# Altium schematic symbol library IMX53.SCHLIB: 60 symbols
Pins are listed as number, name and electrical type; pins without a type are passive.

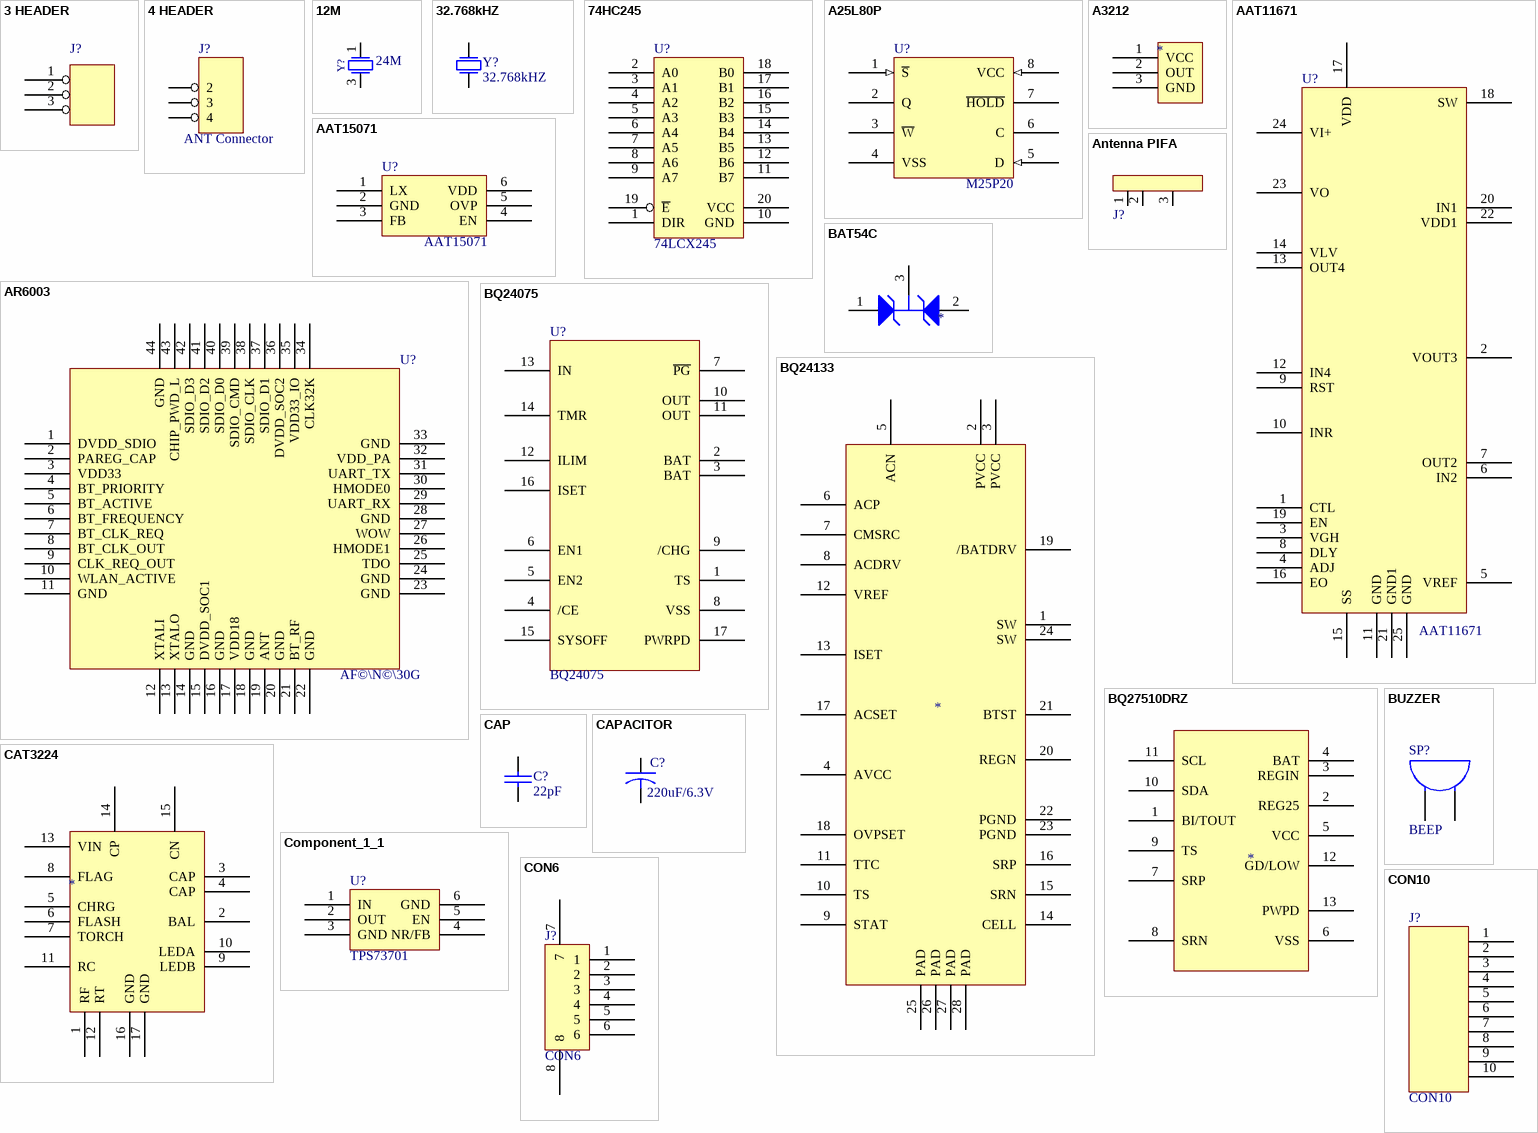
[diagram p0: symbols 3 HEADER to CON10]

## 3 HEADER
designator J?
footprint J-CON-3-2_1 (MONO_TEST)
pins: 1, 2, 3

## 4 HEADER
designator J?, comment ANT Connector
4 Pin Header
footprint J-AT-3-50-H (ATNC)
pins: 2, 3, 4

## 12M
designator Y?, comment 24M
Crystal Oscillator
footprint Y-4-2_2-TXC-3225 (XTAL-3225)
pins: 1 P1, 2 GND hidden to GND, 3 P2, 4 GND hidden to GND

## 32.768kHZ
designator Y?
Crystal Oscillator
footprint Y-2-XTALB (XTAL-B)
pins: 1 P1, 2 P2

## 74HC245
designator U?, comment 74LCX245
footprint TSSOP-20
pins: 1 DIR, 2 A0, 3 A1, 4 A2, 5 A3, 6 A4, 7 A5, 8 A6, 9 A7, 10 GND, 11 B7, 12 B6, 13 B5, 14 B4, 15 B3, 16 B2, 17 B1, 18 B0, 19 ~{E}, 20 VCC

## A25L80P
designator U?, comment M25P20
footprint U-SO-8-1_27 (SO-8)
pins: 1 ~{S} (in), 2 Q, 3 ~{W}, 4 VSS (power), 5 D (in), 6 C, 7 ~{HOLD}, 8 VCC (in)

## A3212
designator *
pins: 1 VCC, 2 OUT, 3 GND

## AAT11671
designator U?
footprint U-QFN-24-0_5 (Footprint not found)
pins: 1 CTL, 2 VOUT3, 3 VGH, 4 ADJ, 5 VREF, 6 IN2, 7 OUT2, 8 DLY, 9 RST, 10 INR, 11 GND, 12 IN4, 13 OUT4, 14 VLV, 15 SS, 16 EO, 17 VDD, 18 SW, 19 EN, 20 IN1, 21 GND1, 22 VDD1, 23 VO, 24 VI+, 25 GND

## AAT15071
designator U?
footprint SOT23-6-0_95 (Footprint not found)
pins: 1 LX, 2 GND, 3 FB, 4 EN, 5 OVP, 6 VDD

## Antenna PIFA
designator J?  (value not drawn)
footprint J-WA-3-ST01
pins: 1, 2, 3

## AR6003
designator U?, comment AF©\N©\30G
footprint U-QFN-44-0_55 (Model Description)
pins: 1 DVDD_SDIO, 2 PAREG_CAP, 3 VDD33, 4 BT_PRIORITY, 5 BT_ACTIVE, 6 BT_FREQUENCY, 7 BT_CLK_REQ, 8 BT_CLK_OUT, 9 CLK_REQ_OUT, 10 WLAN_ACTIVE, 11 GND, 12 XTALI, 13 XTALO, 14 GND, 15 DVDD_SOC1, 16 GND, 17 VDD18, 18 GND, 19 ANT, 20 GND, 21 BT_RF, 22 GND, 23 GND, 24 GND, 25 TDO, 26 HMODE1, 27 WOW, 28 GND, 29 UART_RX, 30 HMODE0, 31 UART_TX, 32 VDD_PA, 33 GND, 34 CLK32K, 35 VDD33_IO, 36 DVDD_SOC2, 37 SDIO_D1, 38 SDIO_CLK, 39 SDIO_CMD, 40 SDIO_D0, 41 SDIO_D2, 42 SDIO_D3, 43 CHIP_PWD_L, 44 GND

## BAT54C
designator *
pins: 1 A, 2 K, 3 A

## BQ24075
designator U?
footprint QFN-N16
pins: 1 TS, 2 BAT, 3 BAT, 4 /CE, 5 EN2, 6 EN1, 7 ~{PG}, 8 VSS, 9 /CHG, 10 OUT, 11 OUT, 12 ILIM, 13 IN, 14 TMR, 15 SYSOFF, 16 ISET, 17 PWRPD

## BQ24133
designator *
pins: 1 SW, 2 PVCC, 3 PVCC, 4 AVCC, 5 ACN, 6 ACP, 7 CMSRC, 8 ACDRV, 9 STAT, 10 TS, 11 TTC, 12 VREF, 13 ISET, 14 CELL, 15 SRN, 16 SRP, 17 ACSET, 18 OVPSET, 19 /BATDRV, 20 REGN, 21 BTST, 22 PGND, 23 PGND, 24 SW, 25 PAD, 26 PAD, 27 PAD, 28 PAD

## BQ27510DRZ
designator *
pins: 1 BI/TOUT, 2 REG25, 3 REGIN, 4 BAT, 5 VCC, 6 VSS, 7 SRP, 8 SRN, 9 TS, 10 SDA, 11 SCL, 12 GD/LOW, 13 PWPD

## BUZZER
designator SP?, comment BEEP
Buzzer
footprint J-BUZ-4-6_4 (KTT)
pins: 1 A, 2 B

## CAP
designator C?, comment 22pF
Capacitor
footprint 0603
footprint 0402A
footprint C0402 (0402B)
pins: 1, 2

## CAPACITOR
designator C?, comment 220uF/6.3V
footprint CASE-B (EIA3518)
pins: 1, 2

## CAT3224
designator *
pins: 1 RF, 2 BAL, 3 CAP, 4 CAP, 5 CHRG, 6 FLASH, 7 TORCH, 8 FLAG, 9 LEDB, 10 LEDA, 11 RC, 12 RT, 13 VIN, 14 CP, 15 CN, 16 GND, 17 GND

## Component_1_1
designator U?, comment TPS73701
footprint U-SOT-223-6 (SOT223-6)
pins: 1 IN, 2 OUT, 3 GND, 4 NR/FB, 5 EN, 6 GND

## CON6
designator J?
footprint J-CON-6-0_5 (CN6T)
pins: 1, 2, 3, 4, 5, 6, 7, 8

## CON10
designator J?
footprint J-CON-10-1_0 (CN10T)
pins: 1, 2, 3, 4, 5, 6, 7, 8, 9, 10

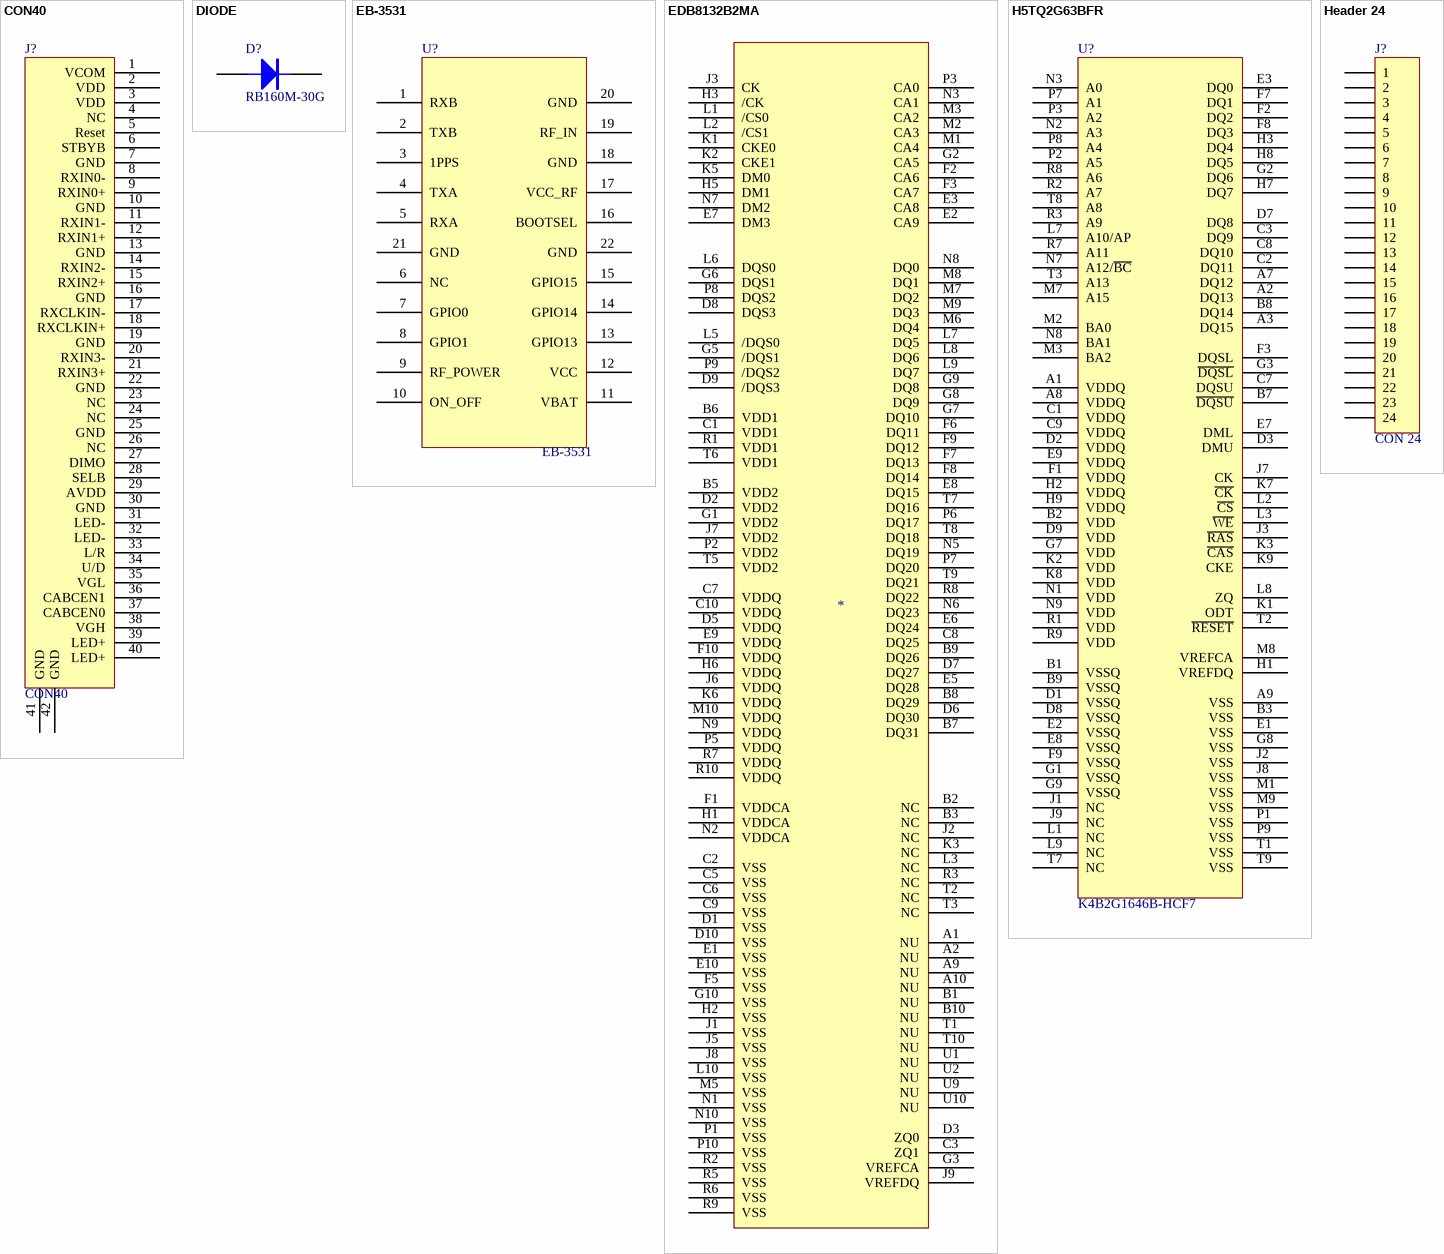
[diagram p1: symbols CON40 to Header 24]

## CON40
designator J?
footprint j-con-40-0_5
pins: 1 VCOM, 2 VDD, 3 VDD, 4 NC, 5 Reset, 6 STBYB, 7 GND, 8 RXIN0-, 9 RXIN0+, 10 GND, 11 RXIN1-, 12 RXIN1+, 13 GND, 14 RXIN2-, 15 RXIN2+, 16 GND, 17 RXCLKIN-, 18 RXCLKIN+, 19 GND, 20 RXIN3-, 21 RXIN3+, 22 GND, 23 NC, 24 NC, 25 GND, 26 NC, 27 DIMO, 28 SELB, 29 AVDD, 30 GND, 31 LED-, 32 LED-, 33 L/R, 34 U/D, 35 VGL, 36 CABCEN1, 37 CABCEN0, 38 VGH, 39 LED+, 40 LED+, 41 GND hidden to GND, 41 GND, 42 GND hidden to GND, 42 GND

## DIODE
designator D?, comment RB160M-30G
footprint SOD-123 (RB160M-30G)
pins: 1, 2

## EB-3531
designator U?
pins: 1 RXB, 2 TXB, 3 1PPS, 4 TXA, 5 RXA, 6 NC, 7 GPIO0, 8 GPIO1, 9 RF_POWER, 10 ON_OFF, 11 VBAT, 12 VCC, 13 GPIO13, 14 GPIO14, 15 GPIO15, 16 BOOTSEL, 17 VCC_RF, 18 GND, 19 RF_IN, 20 GND, 21 GND, 22 GND

## EDB8132B2MA
designator *
pins: A1 NU, A2 NU, A9 NU, A10 NU, B1 NU, B2 NC, B3 NC, B5 VDD2, B6 VDD1, B7 DQ31, B8 DQ29, B9 DQ26, B10 NU, C1 VDD1, C2 VSS, C3 ZQ1, C5 VSS, C6 VSS, C7 VDDQ, C8 DQ25, C9 VSS, C10 VDDQ, D1 VSS, D2 VDD2, D3 ZQ0, D5 VDDQ, D6 DQ30, D7 DQ27, D8 DQS3, D9 /DQS3, D10 VSS, E1 VSS, E2 CA9, E3 CA8, E5 DQ28, E6 DQ24, E7 DM3, E8 DQ15, E9 VDDQ, E10 VSS, F1 VDDCA, F2 CA6, F3 CA7, F5 VSS, F6 DQ11, F7 DQ13, F8 DQ14, F9 DQ12, F10 VDDQ, G1 VDD2, G2 CA5, G3 VREFCA, G5 /DQS1, G6 DQS1, G7 DQ10, G8 DQ9, G9 DQ8, G10 VSS, H1 VDDCA, H2 VSS, H3 /CK, H5 DM1, H6 VDDQ, J1 VSS, J2 NC, J3 CK, J5 VSS, J6 VDDQ, J7 VDD2, J8 VSS, J9 VREFDQ, K1 CKE0, K2 CKE1, K3 NC, K5 DM0, K6 VDDQ, L1 /CS0, L2 /CS1, L3 NC, L5 /DQS0, L6 DQS0, L7 DQ5, L8 DQ6, L9 DQ7, L10 VSS, M1 CA4, M2 CA3, M3 CA2, M5 VSS, M6 DQ4, M7 DQ2, M8 DQ1, M9 DQ3, M10 VDDQ, N1 VSS, N2 VDDCA, N3 CA1, N5 DQ19, N6 DQ23, N7 DM2, N8 DQ0, N9 VDDQ, N10 VSS, P1 VSS, P2 VDD2, P3 CA0, P5 VDDQ, P6 DQ17, P7 DQ20, P8 DQS2, P9 /DQS2, P10 VSS, R1 VDD1, R2 VSS, R3 NC, R5 VSS, R6 VSS, R7 VDDQ, R8 DQ22, R9 VSS, R10 VDDQ, T1 NU, T2 NC, T3 NC, T5 VDD2, T6 VDD1, T7 DQ16, T8 DQ18, T9 DQ21, T10 NU, U1 NU, U2 NU, U9 NU, U10 NU

## H5TQ2G63BFR
designator U?, comment K4B2G1646B-HCF7
footprint U-BGA-96-0_8 (Model Description)
pins: A1 VDDQ, A2 DQ13, A3 DQ15, A7 DQ12, A8 VDDQ, A9 VSS, B1 VSSQ, B2 VDD, B3 VSS, B7 ~{DQSU}, B8 DQ14, B9 VSSQ, C1 VDDQ, C2 DQ11, C3 DQ9, C7 DQSU, C8 DQ10, C9 VDDQ, D1 VSSQ, D2 VDDQ, D3 DMU, D7 DQ8, D8 VSSQ, D9 VDD, E1 VSS, E2 VSSQ, E3 DQ0, E7 DML, E8 VSSQ, E9 VDDQ, F1 VDDQ, F2 DQ2, F3 DQSL, F7 DQ1, F8 DQ3, F9 VSSQ, G1 VSSQ, G2 DQ6, G3 ~{DQSL}, G7 VDD, G8 VSS, G9 VSSQ, H1 VREFDQ, H2 VDDQ, H3 DQ4, H7 DQ7, H8 DQ5, H9 VDDQ, J1 NC, J2 VSS, J3 ~{RAS}, J7 CK, J8 VSS, J9 NC, K1 ODT, K2 VDD, K3 ~{CAS}, K7 ~{CK}, K8 VDD, K9 CKE, L1 NC, L2 ~{CS}, L3 ~{WE}, L7 A10/AP, L8 ZQ, L9 NC, M1 VSS, M2 BA0, M3 BA2, M7 A15, M8 VREFCA, M9 VSS, N1 VDD, N2 A3, N3 A0, N7 A12/~{BC}, N8 BA1, N9 VDD, P1 VSS, P2 A5, P3 A2, P7 A1, P8 A4, P9 VSS, R1 VDD, R2 A7, R3 A9, R7 A11, R8 A6, R9 VDD, T1 VSS, T2 ~{RESET}, T3 A13, T7 NC, T8 A8, T9 VSS

## Header 24
designator J?, comment CON 24
Header, 24-Pin; Manufacturer: Generic Components; Class: Connector
footprint HDR1X24
signal-integrity model Connector
pins: 1, 2, 3, 4, 5, 6, 7, 8, 9, 10, 11, 12, 13, 14, 15, 16, 17, 18, 19, 20, 21, 22, 23, 24

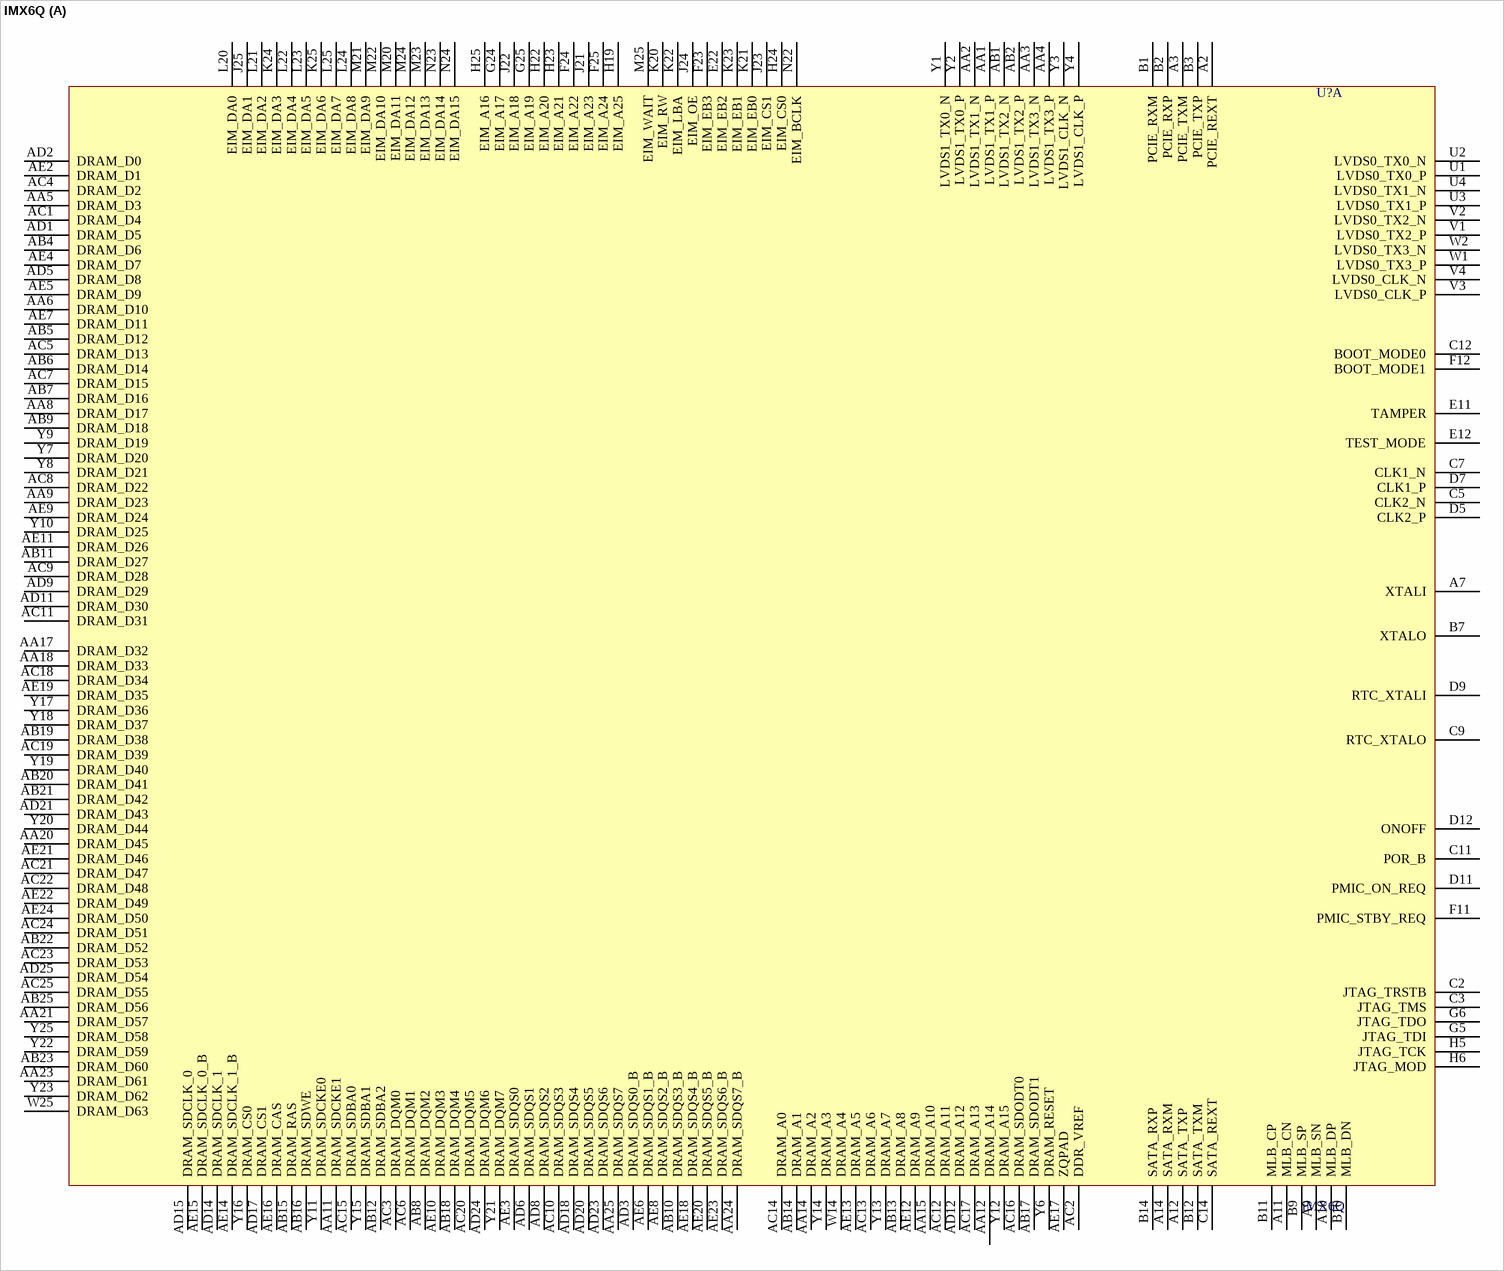
[diagram p2: symbol IMX6Q]

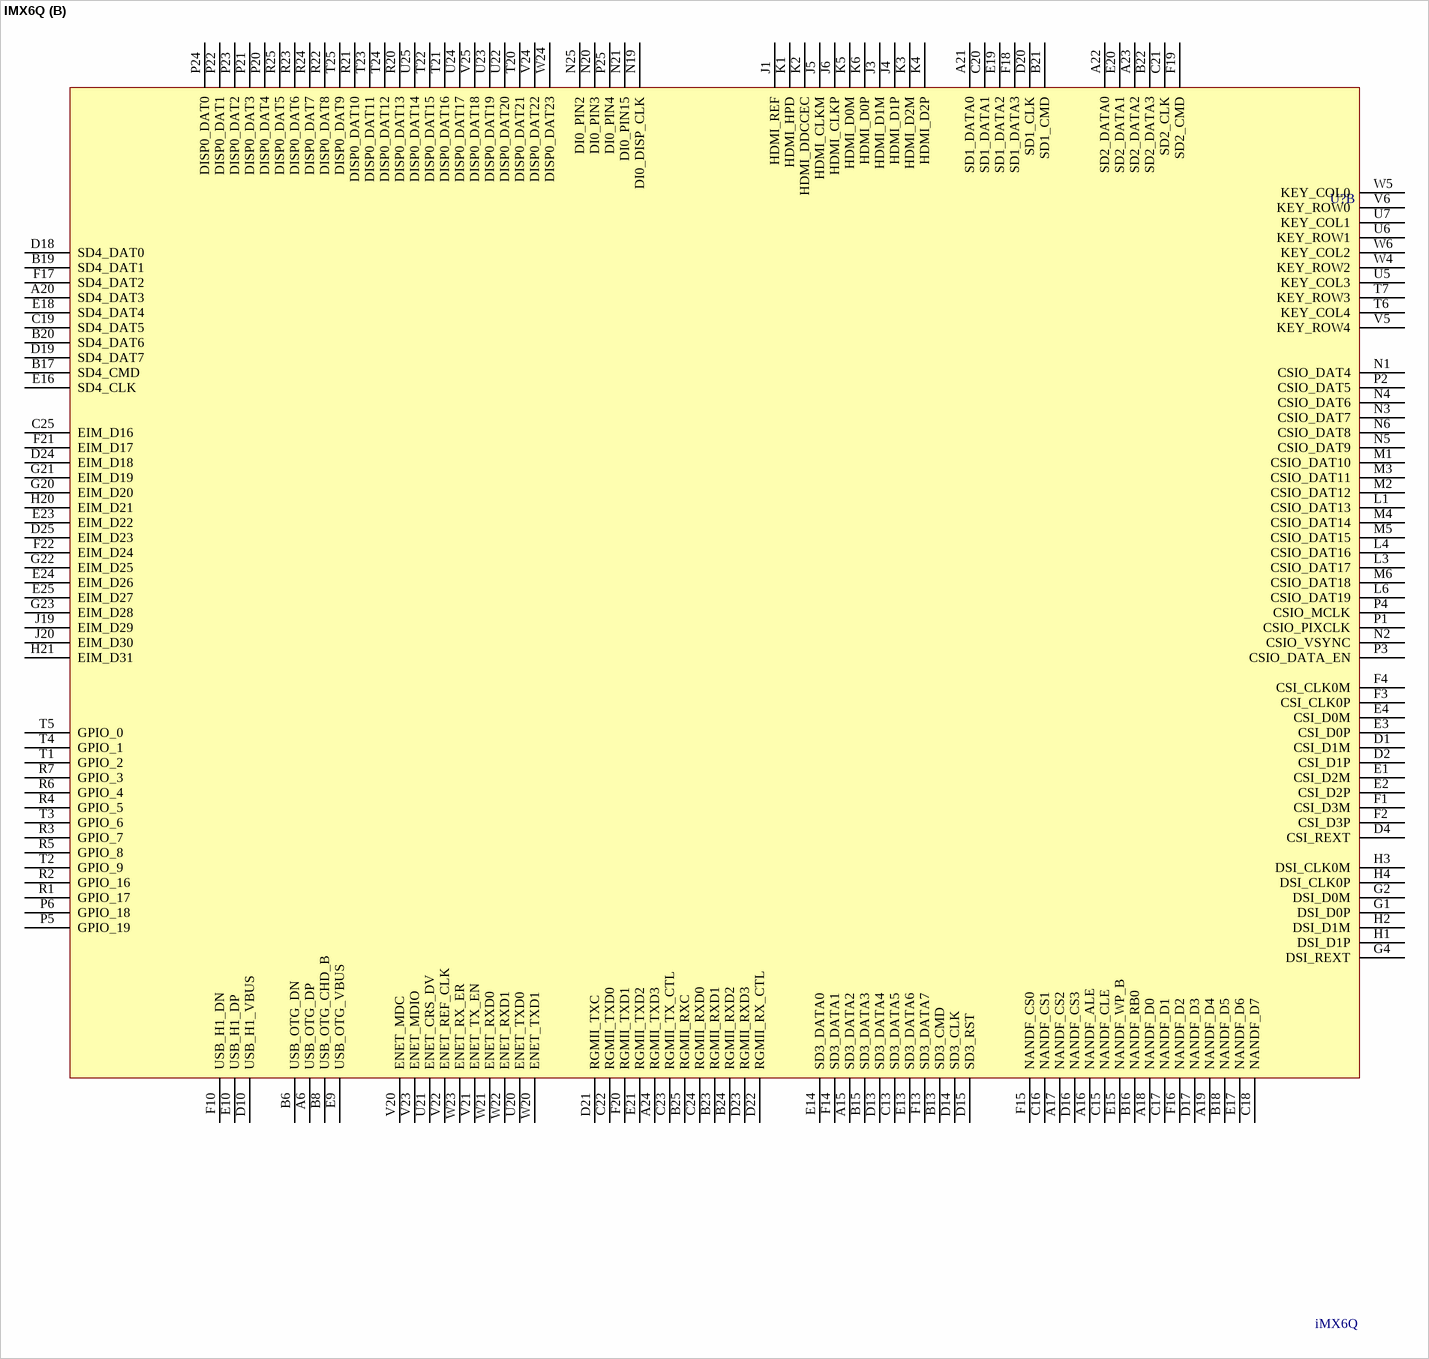
[diagram p3: symbol IMX6Q]

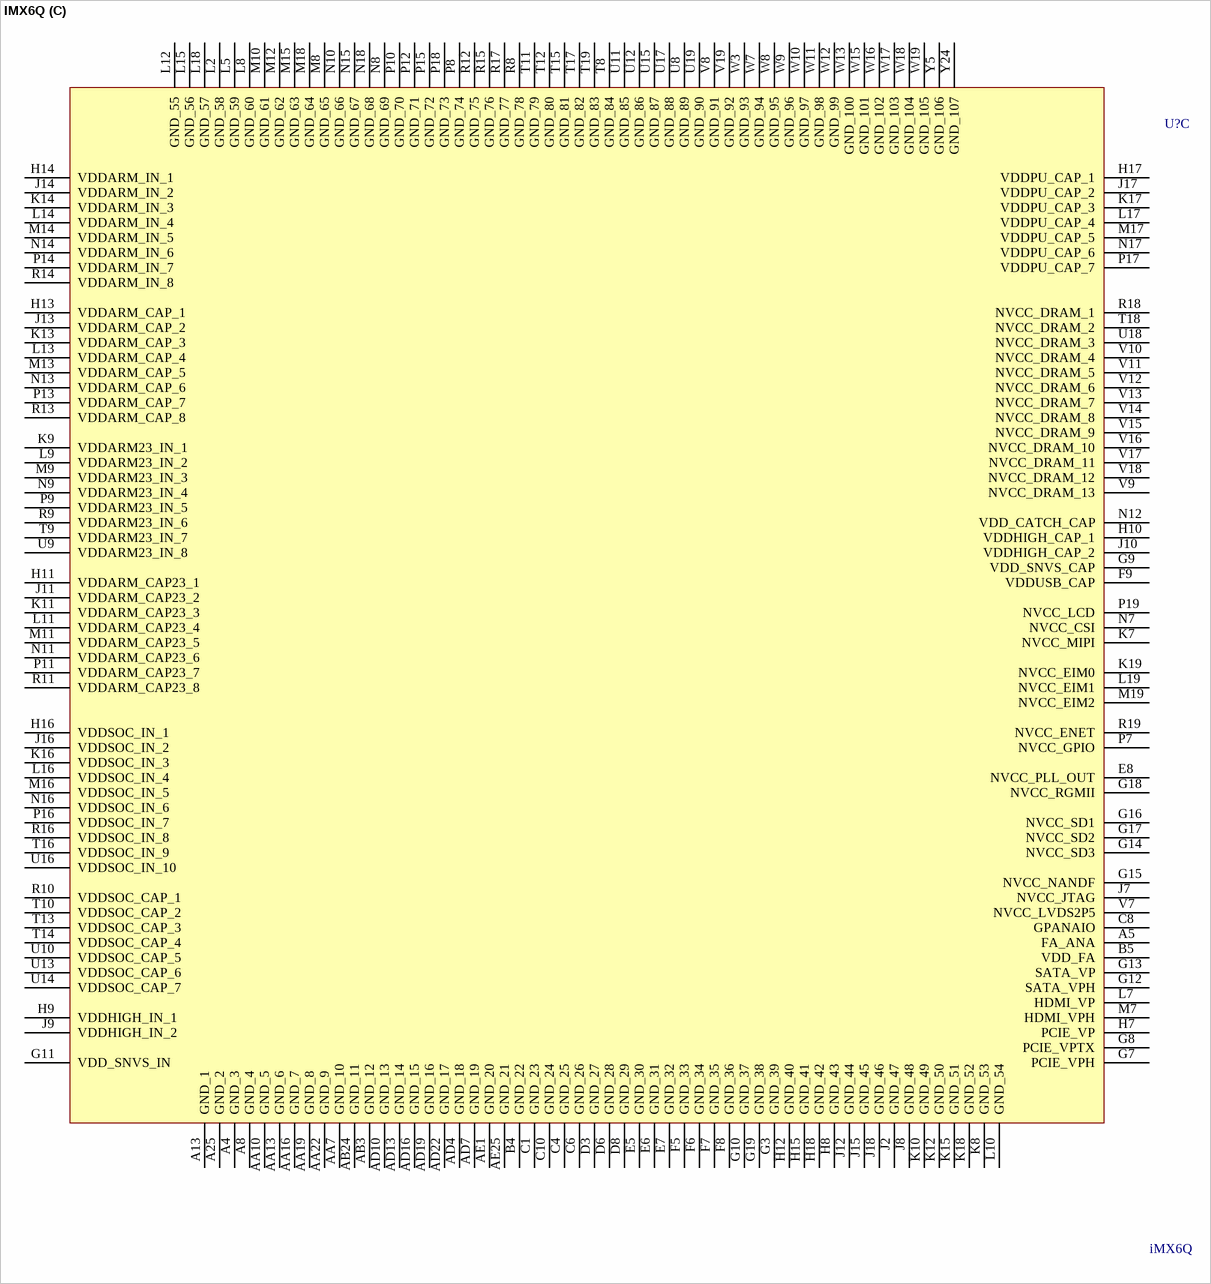
[diagram p4: symbol IMX6Q]

## IMX6Q
designator U?, comment iMX6Q
footprint U-BGA-529-0_8 (Model Description); pin to pad A4>132 A5>U12 A8>133 A12>A10 A13>130 A14>A12 A15>F17 A16>83 A17>85 A19>91 A25>131 AA7>139 AA16>136 AA22>138 AA23>72 AA24>Y23 AA25>Y22 AB3>141 AB24>140 AB25>67 AC24>62 AC25>66 AD1>G23 AD2>H20 AD3>H22 AD4>147 AD5>E21 AD6>D23 AD7>148 AD8>T22 AD9>V23 AD10>142 AD11>AA22 AD12>L20 AD13>143 AD14>P22 AD15>K23 AD16>144 AD17>P19 AD18>H23 AD19>145 AD20>D23 AD21>54 AD22>146 AD23>T22 AD24>77 AD25>65 AE1>149 AE2>G21 AE3>H23 AE4>G22 AE5>D21 AE6>D22 AE7>D20 AE8>T23 AE9>Y20 AE10>W20 AE11>Y21 AE12>M21 AE13>N21 AE14>P23 AE15>K22 AE16>L18 AE17>M23 AE18>H22 AE19>46 AE20>D22 AE21>57 AE22>60 AE23>T23 AE24>61 AE25>150 B4>151 B5>170 B12>B10 B14>B12 B15>F16 B16>86 C1>152 C2>E15 C3>A8 C4>154 C6>155 C8>F9 C10>153 C12>94 C13>C20 C15>84 C16>84 C17>88 C25>U6 D3>156 D6>157 D8>158 D13>A21 D14>E16 D16>86 D17>90 D24>V1 D25>Y1 E5>159 E6>160 E7>161 E8>215 E13>E19 E14>A20 E15>85 E17>93 E20>C14 E22>Y3 E23>W2 E24>V5 E25>V4 F5>162 F6>163 F7>164 F12>B20 F15>83 F16>89 F23>Y4 F24>AA3 F25>Y5 G3>168 G5>C16 G6>W23 G10>166 G11>279 G14>H14 G15>209 G17>237 G19>167 G20>W1 G21>V2 G22>W3 G23>AA1 G24>V7 G25>W7 H5>73 H6>70 H8>172 H9>277 H10>296 H11>259 H12>169 H13>244 H16>267 H17>287 H18>171 H19>W6 H20>V3 H21>W5 H22>P18 H23>AA4 H24>W8 H25>G20 J4>D14 J5>F18 J7>298 J8>177 J9>278 J10>297 J11>260 J12>173 J13>245 J14>238 J15>174 J16>268 J17>288 J18>175 J19>AA2 J21>V6 J22>AB3 J23>Y7 J24>V8 J25>J21 K7>D13 K8>182 K9>251 K10>178 K11>261 K12>179 K13>246 K14>239 K15>180 K16>269 K17>289 K18>181 K19>258 K20>AB4 K22>AA6 K23>AB5 K24>W9 K25>R21 L7>M7 L8>189 L9>252 L10>183 L11>262 L13>247 L14>240 L15>185 L16>270 L17>290 L18>186 L19>U9 L20>R22 L21>AA7 L22>F23 L23>V9 L24>T21 L25>C23 M8>194 M9>253 M10>190 M11>263 M12>191 M13>248 M14>241 M15>192 M16>271 M17>291 M18>193 M19>U9 M20>E20 M21>W10 M22>U20 M23>C22 M24>V10 M25>AB9 N7>B19 N8>198 N9>254 N10>195 N11>264 N12>294 N13>249 N14>242 N15>196 N16>272 N17>292 N18>197 N19>R2 N20>C2 N21>E4 N22>W11 N23>W21 N24>R23 N25>D3 P7>165 P8>203 P9>255 P10>199 P11>265 P12>200 P13>250 P14>243 P15>201 P16>273 P17>293 P18>202 P19>J7 P20>R6 P22>J4 P23>N4 P24>J5 P25>D2 R1>A3 R2>C6 R3>A4 R4>A5 R5>B5 R6>D8 R8>207 R9>256 R10>280 R11>266 R12>204 R13>250 R14>243 R15>205 R16>274 R17>206 R18>28 R19>E7 R21>G3 R22>G6 R23>R3 R24>H6 R25>R1 T1>B21 T2>E8 T3>A19 T4>W22 T5>C8 T6>E5 T8>213 T9>257 T10>281 T11>208 T13>282 T14>283 T15>210 T16>275 T17>211 T18>29 T19>212 T20>C1 T21>D1 T22>F3 T23>H5 T24>N3 T25>E2 U1>AB14 U2>AC14 U3>AB13 U4>AC13 U5>F6 U6>D6 U8>218 U10>284 U13>285 U14>286 U15>216 U18>30 U19>219 U20>D17 U21>K20 U22>F4 U23>G5 U24>F5 U25>F2 V1>AB12 V2>AC12 V3>Y13 V4>AA13 V5>E6 V6>B3 V8>220 V9>40 V10>31 V11>32 V12>33 V13>34 V14>35 V15>36 V16>37 V17>38 V18>39 V19>221 V23>A21 V24>E3 V25>U1 W1>Y12 W2>AA12 W3>222 W4>D18 W5>B21 W6>C4 W7>223 W8>224 W9>225 W10>226 W11>227 W15>230 W16>231 W17>232 W18>233 W19>234 W20>B17 W21>D15 W22>C19 W23>F12 W24>C3 W25>74 Y5>235 Y20>55 Y21>78 Y24>236 Y25>69
part A pins: A2 PCIE_REXT, A3 PCIE_TXM, A7 XTALI, A9 MLB_SN, A10 MLB_DP, A11 MLB_CN, A12 SATA_TXP, A14 SATA_RXM, AA1 LVDS1_TX1_P, AA2 LVDS1_TX1_N, AA3 LVDS1_TX3_N, AA4 LVDS1_TX3_P, AA5 DRAM_D3, AA6 DRAM_D10, AA8 DRAM_D17, AA9 DRAM_D23, AA11 DRAM_SDCKE1, AA12 DRAM_A14, AA14 DRAM_A2, AA15 DRAM_A10, AA17 DRAM_D32, AA18 DRAM_D33, AA20 DRAM_D45, AA21 DRAM_D57, AA23 DRAM_D61, AA24 DRAM_SDQS7_B, AA25 DRAM_SDQS7, AB1 LVDS1_TX2_N, AB2 LVDS1_TX2_P, AB4 DRAM_D6, AB5 DRAM_D12, AB6 DRAM_D14, AB7 DRAM_D16, AB8 DRAM_DQM2, AB9 DRAM_D18, AB10 DRAM_SDQS3_B, AB11 DRAM_D27, AB12 DRAM_SDBA2, AB13 DRAM_A8, AB14 DRAM_A1, AB15 DRAM_RAS, AB16 DRAM_SDWE, AB17 DRAM_SDODT1, AB18 DRAM_DQM4, AB19 DRAM_D38, AB20 DRAM_D41, AB21 DRAM_D42, AB22 DRAM_D52, AB23 DRAM_D60, AB25 DRAM_D56, AC1 DRAM_D4, AC2 DDR_VREF, AC3 DRAM_DQM0, AC4 DRAM_D2, AC5 DRAM_D13, AC6 DRAM_DQM1, AC7 DRAM_D15, AC8 DRAM_D22, AC9 DRAM_D28, AC10 DRAM_SDQS3, AC11 DRAM_D31, AC12 DRAM_A11, AC13 DRAM_A6, AC14 DRAM_A0, AC15 DRAM_SDBA0, AC16 DRAM_SDODT0, AC17 DRAM_A13, AC18 DRAM_D34, AC19 DRAM_D39, AC20 DRAM_DQM5, AC21 DRAM_D47, AC22 DRAM_D48, AC23 DRAM_D53, AC24 DRAM_D51, AC25 DRAM_D55, AD1 DRAM_D5, AD2 DRAM_D0, AD3 DRAM_SDQS0_B, AD5 DRAM_D8, AD6 DRAM_SDQS1, AD8 DRAM_SDQS2, AD9 DRAM_D29, AD11 DRAM_D30, AD12 DRAM_A12, AD14 DRAM_SDCLK_1, AD15 DRAM_SDCLK_0, AD17 DRAM_CS1, AD18 DRAM_SDQS4, AD20 DRAM_SDQS5, AD21 DRAM_D43, AD23 DRAM_SDQS6, AD24 DRAM_DQM6, AD25 DRAM_D54, AE2 DRAM_D1, AE3 DRAM_SDQS0, AE4 DRAM_D7, AE5 DRAM_D9, AE6 DRAM_SDQS1_B, AE7 DRAM_D11, AE8 DRAM_SDQS2_B, AE9 DRAM_D24, AE10 DRAM_DQM3, AE11 DRAM_D26, AE12 DRAM_A9, AE13 DRAM_A5, AE14 DRAM_SDCLK_1_B, AE15 DRAM_SDCLK_0_B, AE16 DRAM_CAS, AE17 ZQPAD, AE18 DRAM_SDQS4_B, AE19 DRAM_D35, AE20 DRAM_SDQS5_B, AE21 DRAM_D46, AE22 DRAM_D49, AE23 DRAM_SDQS6_B, AE24 DRAM_D50, B1 PCIE_RXM, B2 PCIE_RXP, B3 PCIE_TXP, B7 XTALO, B9 MLB_SP, B10 MLB_DN, B11 MLB_CP, B12 SATA_TXM, B14 SATA_RXP, C2 JTAG_TRSTB, C3 JTAG_TMS, C5 CLK2_N, C7 CLK1_N, C9 RTC_XTALO, C11 POR_B, C12 BOOT_MODE0, C14 SATA_REXT, D5 CLK2_P, D7 CLK1_P, D9 RTC_XTALI, D11 PMIC_ON_REQ, D12 ONOFF, E11 TAMPER, E12 TEST_MODE, E22 EIM_EB2, F11 PMIC_STBY_REQ, F12 BOOT_MODE1, F23 EIM_EB3, F24 EIM_A22, F25 EIM_A24, G5 JTAG_TDI, G6 JTAG_TDO, G24 EIM_A17, G25 EIM_A19, H5 JTAG_TCK, H6 JTAG_MOD, H19 EIM_A25, H22 EIM_A20, H23 EIM_A21, H24 EIM_CS0, H25 EIM_A16, J21 EIM_A23, J22 EIM_A18, J23 EIM_CS1, J24 EIM_OE, J25 EIM_DA1, K20 EIM_RW, K21 EIM_EB0, K22 EIM_LBA, K23 EIM_EB1, K24 EIM_DA3, K25 EIM_DA6, L20 EIM_DA0, L21 EIM_DA2, L22 EIM_DA4, L23 EIM_DA5, L24 EIM_DA8, L25 EIM_DA7, M20 EIM_DA11, M21 EIM_DA9, M22 EIM_DA10, M23 EIM_DA13, M24 EIM_DA12, M25 EIM_WAIT, N22 EIM_BCLK, N23 EIM_DA14, N24 EIM_DA15, U1 LVDS0_TX0_P, U2 LVDS0_TX0_N, U3 LVDS0_TX1_P, U4 LVDS0_TX1_N, V1 LVDS0_TX2_P, V2 LVDS0_TX2_N, V3 LVDS0_CLK_P, V4 LVDS0_CLK_N, W1 LVDS0_TX3_P, W2 LVDS0_TX3_N, W14 DRAM_A4, W25 DRAM_D63, Y1 LVDS1_TX0_N, Y2 LVDS1_TX0_P, Y3 LVDS1_CLK_N, Y4 LVDS1_CLK_P, Y6 DRAM_RESET, Y7 DRAM_D20, Y8 DRAM_D21, Y9 DRAM_D19, Y10 DRAM_D25, Y11 DRAM_SDCKE0, Y12 DRAM_A15, Y13 DRAM_A7, Y14 DRAM_A3, Y15 DRAM_SDBA1, Y16 DRAM_CS0, Y17 DRAM_D36, Y18 DRAM_D37, Y19 DRAM_D40, Y20 DRAM_D44, Y21 DRAM_DQM7, Y22 DRAM_D59, Y23 DRAM_D62, Y25 DRAM_D58
part B pins: A6 USB_OTG_DP, A15 SD3_DATA2, A16 NANDF_ALE, A17 NANDF_CS2, A18 NANDF_D0, A19 NANDF_D4, A20 SD4_DAT3, A21 SD1_DATA0, A22 SD2_DATA0, A23 SD2_DATA2, A24 RGMII_TXD3, B6 USB_OTG_DN, B8 USB_OTG_CHD_B, B13 SD3_CMD, B15 SD3_DATA3, B16 NANDF_RB0, B17 SD4_CMD, B18 NANDF_D5, B19 SD4_DAT1, B20 SD4_DAT6, B21 SD1_CMD, B22 SD2_DATA3, B23 RGMII_RXD1, B24 RGMII_RXD2, B25 RGMII_RXC, C13 SD3_DATA5, C15 NANDF_CLE, C16 NANDF_CS1, C17 NANDF_D1, C18 NANDF_D7, C19 SD4_DAT5, C20 SD1_DATA1, C21 SD2_CLK, C22 RGMII_TXD0, C23 RGMII_TX_CTL, C24 RGMII_RXD0, C25 EIM_D16, D1 CSI_D1M, D2 CSI_D1P, D4 CSI_REXT, D10 USB_H1_VBUS, D13 SD3_DATA4, D14 SD3_CLK, D15 SD3_RST, D16 NANDF_CS3, D17 NANDF_D3, D18 SD4_DAT0, D19 SD4_DAT7, D20 SD1_CLK, D21 RGMII_TXC, D22 RGMII_RX_CTL, D23 RGMII_RXD3, D24 EIM_D18, D25 EIM_D23, E1 CSI_D2M, E2 CSI_D2P, E3 CSI_D0P, E4 CSI_D0M, E9 USB_OTG_VBUS, E10 USB_H1_DP, E13 SD3_DATA6, E14 SD3_DATA0, E15 NANDF_WP_B, E16 SD4_CLK, E17 NANDF_D6, E18 SD4_DAT4, E19 SD1_DATA2, E20 SD2_DATA1, E21 RGMII_TXD2, E23 EIM_D22, E24 EIM_D26, E25 EIM_D27, F1 CSI_D3M, F2 CSI_D3P, F3 CSI_CLK0P, F4 CSI_CLK0M, F10 USB_H1_DN, F13 SD3_DATA7, F14 SD3_DATA1, F15 NANDF_CS0, F16 NANDF_D2, F17 SD4_DAT2, F18 SD1_DATA3, F19 SD2_CMD, F20 RGMII_TXD1, F21 EIM_D17, F22 EIM_D24, G1 DSI_D0P, G2 DSI_D0M, G4 DSI_REXT, G20 EIM_D20, G21 EIM_D19, G22 EIM_D25, G23 EIM_D28, H1 DSI_D1P, H2 DSI_D1M, H3 DSI_CLK0M, H4 DSI_CLK0P, H20 EIM_D21, H21 EIM_D31, J1 HDMI_REF, J3 HDMI_D1M, J4 HDMI_D1P, J5 HDMI_CLKM, J6 HDMI_CLKP, J19 EIM_D29, J20 EIM_D30, K1 HDMI_HPD, K2 HDMI_DDCCEC, K3 HDMI_D2M, K4 HDMI_D2P, K5 HDMI_D0M, K6 HDMI_D0P, L1 CSIO_DAT13, L3 CSIO_DAT17, L4 CSIO_DAT16, L6 CSIO_DAT19, M1 CSIO_DAT10, M2 CSIO_DAT12, M3 CSIO_DAT11, M4 CSIO_DAT14, M5 CSIO_DAT15, M6 CSIO_DAT18, N1 CSIO_DAT4, N2 CSIO_VSYNC, N3 CSIO_DAT7, N4 CSIO_DAT6, N5 CSIO_DAT9, N6 CSIO_DAT8, N19 DI0_DISP_CLK, N20 DI0_PIN3, N21 DI0_PIN15, N25 DI0_PIN2, P1 CSIO_PIXCLK, P2 CSIO_DAT5, P3 CSIO_DATA_EN, P4 CSIO_MCLK, P5 GPIO_19, P6 GPIO_18, P20 DISP0_DAT4, P21 DISP0_DAT3, P22 DISP0_DAT1, P23 DISP0_DAT2, P24 DISP0_DAT0, P25 DI0_PIN4, R1 GPIO_17, R2 GPIO_16, R3 GPIO_7, R4 GPIO_5, R5 GPIO_8, R6 GPIO_4, R7 GPIO_3, R20 DISP0_DAT13, R21 DISP0_DAT10, R22 DISP0_DAT8, R23 DISP0_DAT6, R24 DISP0_DAT7, R25 DISP0_DAT5, T1 GPIO_2, T2 GPIO_9, T3 GPIO_6, T4 GPIO_1, T5 GPIO_0, T6 KEY_COL4, T7 KEY_ROW3, T20 DISP0_DAT21, T21 DISP0_DAT16, T22 DISP0_DAT15, T23 DISP0_DAT11, T24 DISP0_DAT12, T25 DISP0_DAT9, U5 KEY_COL3, U6 KEY_ROW1, U7 KEY_COL1, U20 ENET_TXD0, U21 ENET_CRS_DV, U22 DISP0_DAT20, U23 DISP0_DAT19, U24 DISP0_DAT17, U25 DISP0_DAT14, V5 KEY_ROW4, V6 KEY_ROW0, V20 ENET_MDC, V21 ENET_TX_EN, V22 ENET_REF_CLK, V23 ENET_MDIO, V24 DISP0_DAT22, V25 DISP0_DAT18, W4 KEY_ROW2, W5 KEY_COL0, W6 KEY_COL2, W20 ENET_TXD1, W21 ENET_RXD0, W22 ENET_RXD1, W23 ENET_RX_ER, W24 DISP0_DAT23
part C pins: A4 GND_3, A5 FA_ANA, A8 GND_4, A13 GND_1, A25 GND_2, AA7 GND_10, AA10 GND_5, AA13 GND_6, AA16 GND_7, AA19 GND_8, AA22 GND_9, AB3 GND_12, AB24 GND_11, AD4 GND_18, AD7 GND_19, AD10 GND_13, AD13 GND_14, AD16 GND_15, AD19 GND_16, AD22 GND_17, AE1 GND_20, AE25 GND_21, B4 GND_22, B5 VDD_FA, C1 GND_23, C4 GND_25, C6 GND_26, C8 GPANAIO, C10 GND_24, D3 GND_27, D6 GND_28, D8 GND_29, E5 GND_30, E6 GND_31, E7 GND_32, E8 NVCC_PLL_OUT, F5 GND_33, F6 GND_34, F7 GND_35, F8 GND_36, F9 VDDUSB_CAP, G3 GND_39, G7 PCIE_VPH, G8 PCIE_VPTX, G9 VDD_SNVS_CAP, G10 GND_37, G11 VDD_SNVS_IN, G12 SATA_VPH, G13 SATA_VP, G14 NVCC_SD3, G15 NVCC_NANDF, G16 NVCC_SD1, G17 NVCC_SD2, G18 NVCC_RGMII, G19 GND_38, H7 PCIE_VP, H8 GND_43, H9 VDDHIGH_IN_1, H10 VDDHIGH_CAP_1, H11 VDDARM_CAP23_1, H12 GND_40, H13 VDDARM_CAP_1, H14 VDDARM_IN_1, H15 GND_41, H16 VDDSOC_IN_1, H17 VDDPU_CAP_1, H18 GND_42, J2 GND_47, J7 NVCC_JTAG, J8 GND_48, J9 VDDHIGH_IN_2, J10 VDDHIGH_CAP_2, J11 VDDARM_CAP23_2, J12 GND_44, J13 VDDARM_CAP_2, J14 VDDARM_IN_2, J15 GND_45, J16 VDDSOC_IN_2, J17 VDDPU_CAP_2, J18 GND_46, K7 NVCC_MIPI, K8 GND_53, K9 VDDARM23_IN_1, K10 GND_49, K11 VDDARM_CAP23_3, K12 GND_50, K13 VDDARM_CAP_3, K14 VDDARM_IN_3, K15 GND_51, K16 VDDSOC_IN_3, K17 VDDPU_CAP_3, K18 GND_52, K19 NVCC_EIM0, L2 GND_58, L5 GND_59, L7 HDMI_VP, L8 GND_60, L9 VDDARM23_IN_2, L10 GND_54, L11 VDDARM_CAP23_4, L12 GND_55, L13 VDDARM_CAP_4, L14 VDDARM_IN_4, L15 GND_56, L16 VDDSOC_IN_4, L17 VDDPU_CAP_4, L18 GND_57, L19 NVCC_EIM1, M7 HDMI_VPH, M8 GND_65, M9 VDDARM23_IN_3, M10 GND_61, M11 VDDARM_CAP23_5, M12 GND_62, M13 VDDARM_CAP_5, M14 VDDARM_IN_5, M15 GND_63, M16 VDDSOC_IN_5, M17 VDDPU_CAP_5, M18 GND_64, M19 NVCC_EIM2, N7 NVCC_CSI, N8 GND_69, N9 VDDARM23_IN_4, N10 GND_66, N11 VDDARM_CAP23_6, N12 VDD_CATCH_CAP, N13 VDDARM_CAP_6, N14 VDDARM_IN_6, N15 GND_67, N16 VDDSOC_IN_6, N17 VDDPU_CAP_6, N18 GND_68, P7 NVCC_GPIO, P8 GND_74, P9 VDDARM23_IN_5, P10 GND_70, P11 VDDARM_CAP23_7, P12 GND_71, P13 VDDARM_CAP_7, P14 VDDARM_IN_7, P15 GND_72, P16 VDDSOC_IN_7, P17 VDDPU_CAP_7, P18 GND_73, P19 NVCC_LCD, R8 GND_78, R9 VDDARM23_IN_6, R10 VDDSOC_CAP_1, R11 VDDARM_CAP23_8, R12 GND_75, R13 VDDARM_CAP_8, R14 VDDARM_IN_8, R15 GND_76, R16 VDDSOC_IN_8, R17 GND_77, R18 NVCC_DRAM_1, R19 NVCC_ENET, T8 GND_84, T9 VDDARM23_IN_7, T10 VDDSOC_CAP_2, T11 GND_79, T12 GND_80, T13 VDDSOC_CAP_3, T14 VDDSOC_CAP_4, T15 GND_81, T16 VDDSOC_IN_9, T17 GND_82, T18 NVCC_DRAM_2, T19 GND_83, U8 GND_89, U9 VDDARM23_IN_8, U10 VDDSOC_CAP_5, U11 GND_85, U12 GND_86, U13 VDDSOC_CAP_6, U14 VDDSOC_CAP_7, U15 GND_87, U16 VDDSOC_IN_10, U17 GND_88, U18 NVCC_DRAM_3, U19 GND_90, V7 NVCC_LVDS2P5, V8 GND_91, V9 NVCC_DRAM_13, V10 NVCC_DRAM_4, V11 NVCC_DRAM_5, V12 NVCC_DRAM_6, V13 NVCC_DRAM_7, V14 NVCC_DRAM_8, V15 NVCC_DRAM_9, V16 NVCC_DRAM_10, V17 NVCC_DRAM_11, V18 NVCC_DRAM_12, V19 GND_92, W3 GND_93, W7 GND_94, W8 GND_95, W9 GND_96, W10 GND_97, W11 GND_98, W12 GND_99, W13 GND_100, W15 GND_101, W16 GND_102, W17 GND_103, W18 GND_104, W19 GND_105, Y5 GND_106, Y24 GND_107

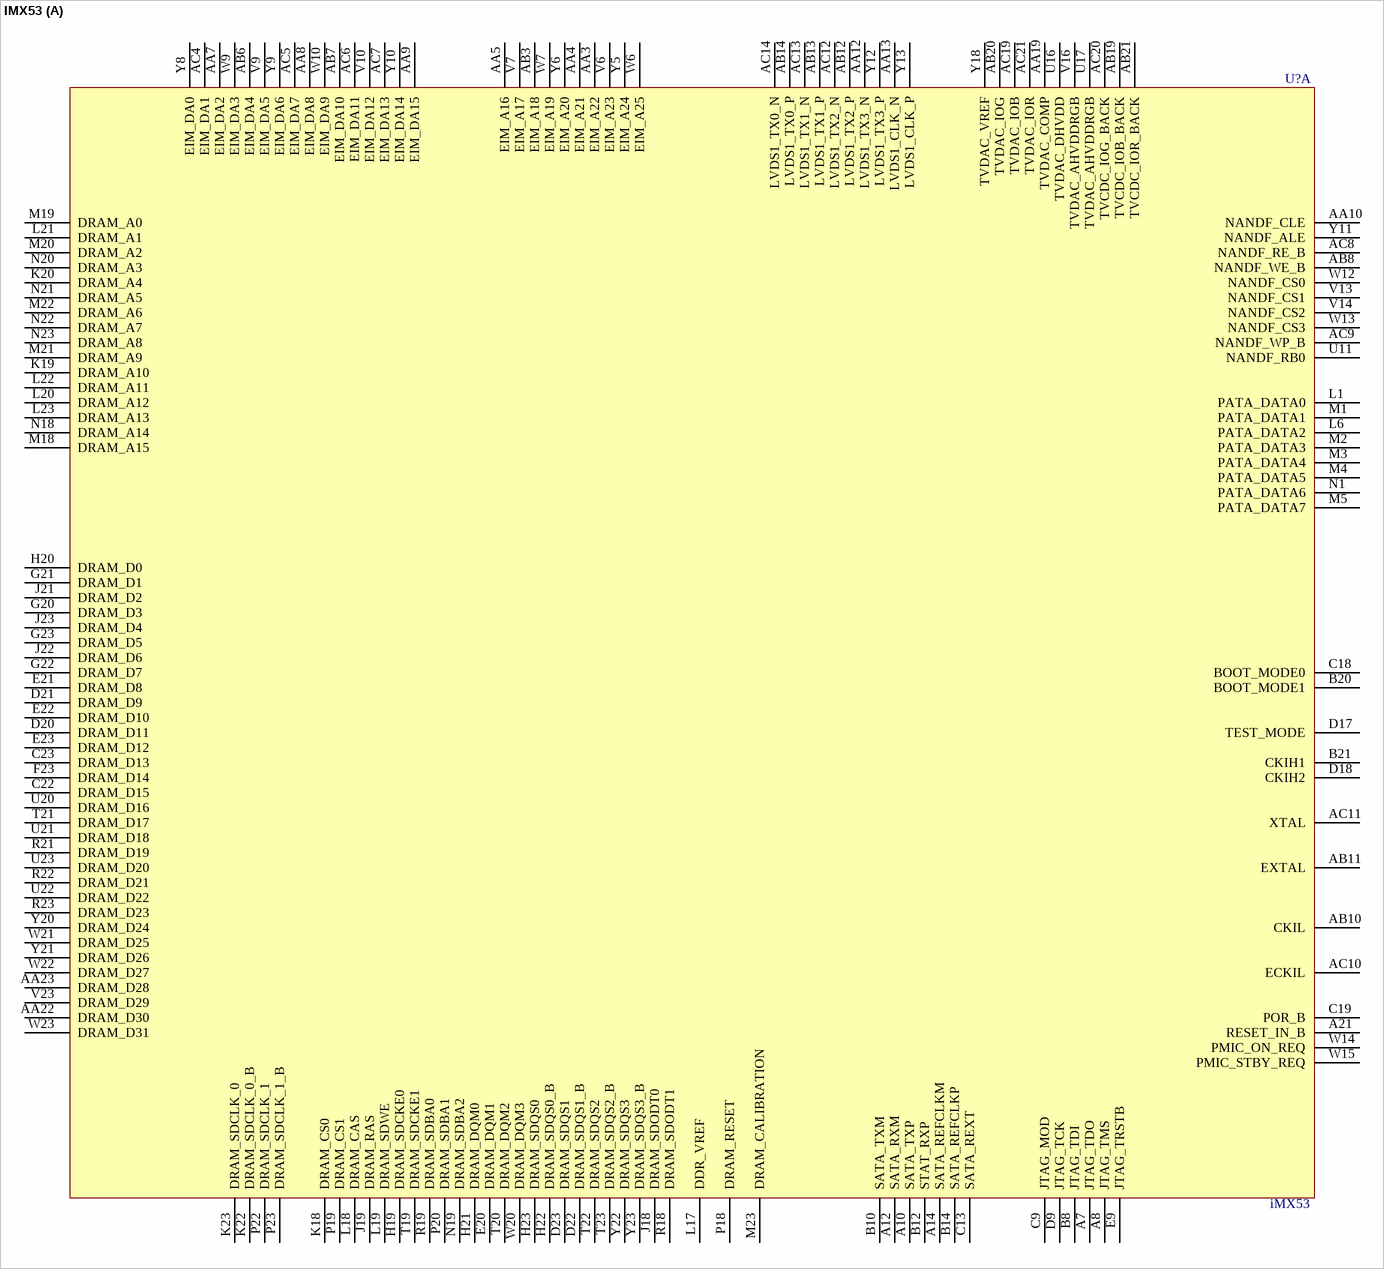
[diagram p5: symbol IMX53]

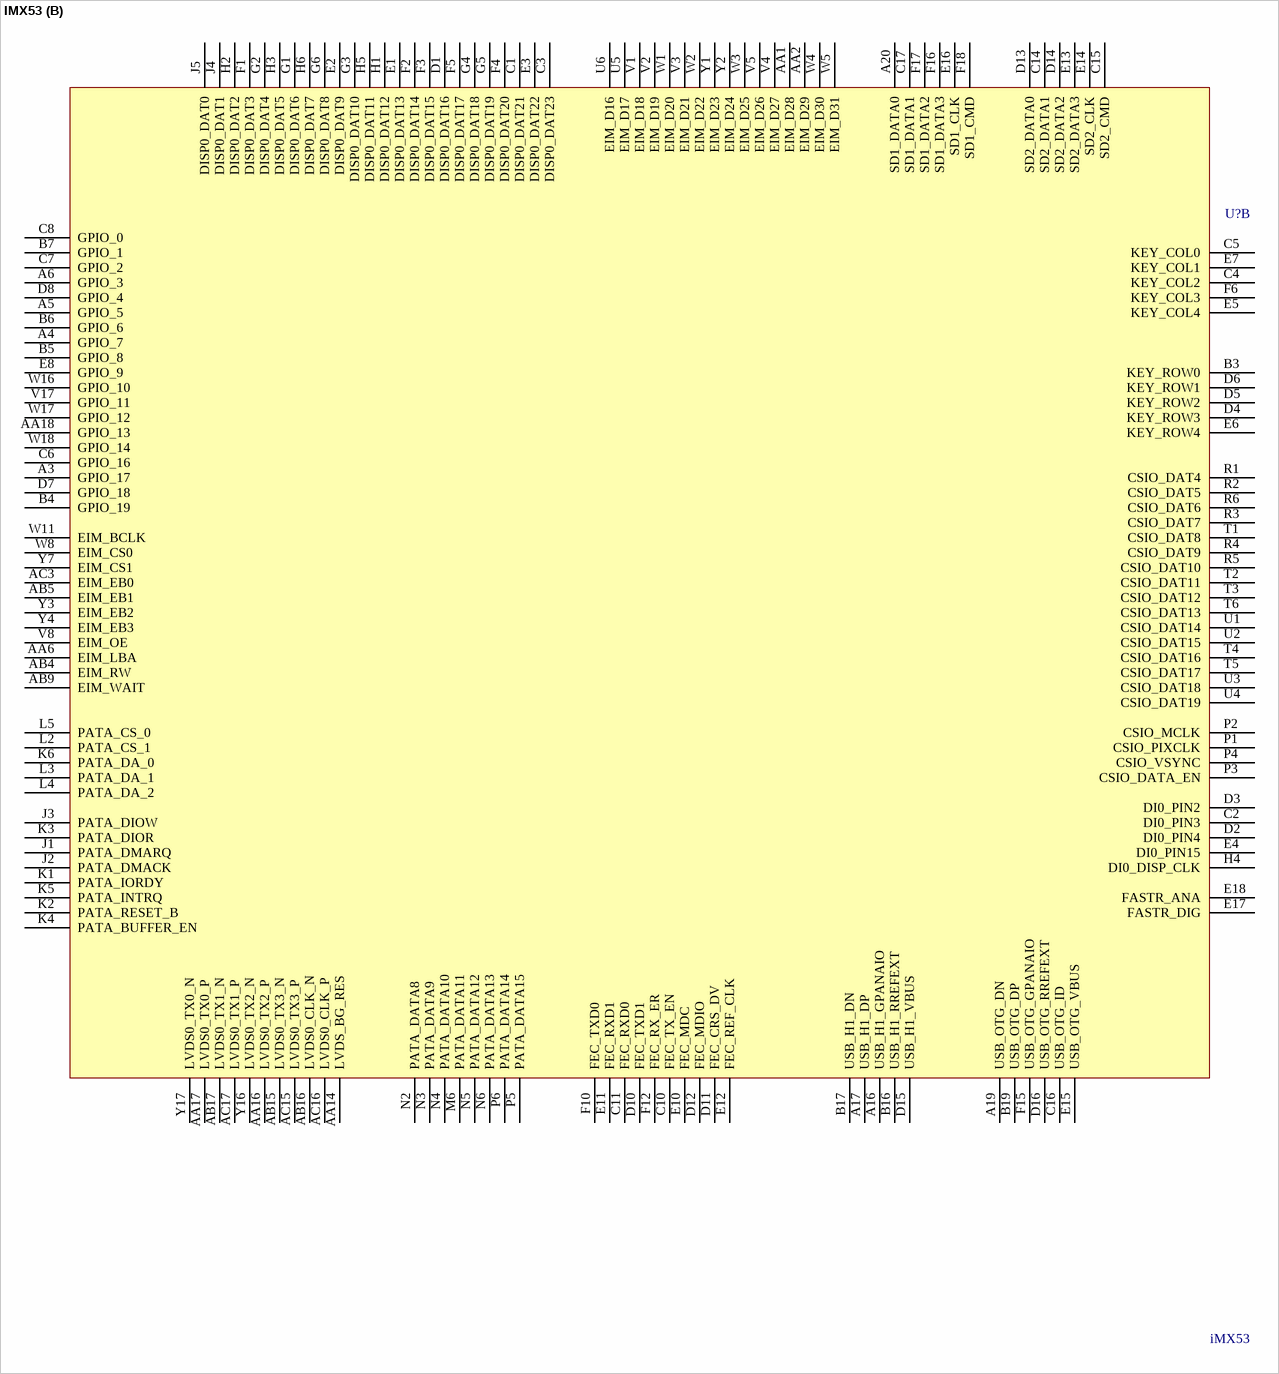
[diagram p6: symbol IMX53]

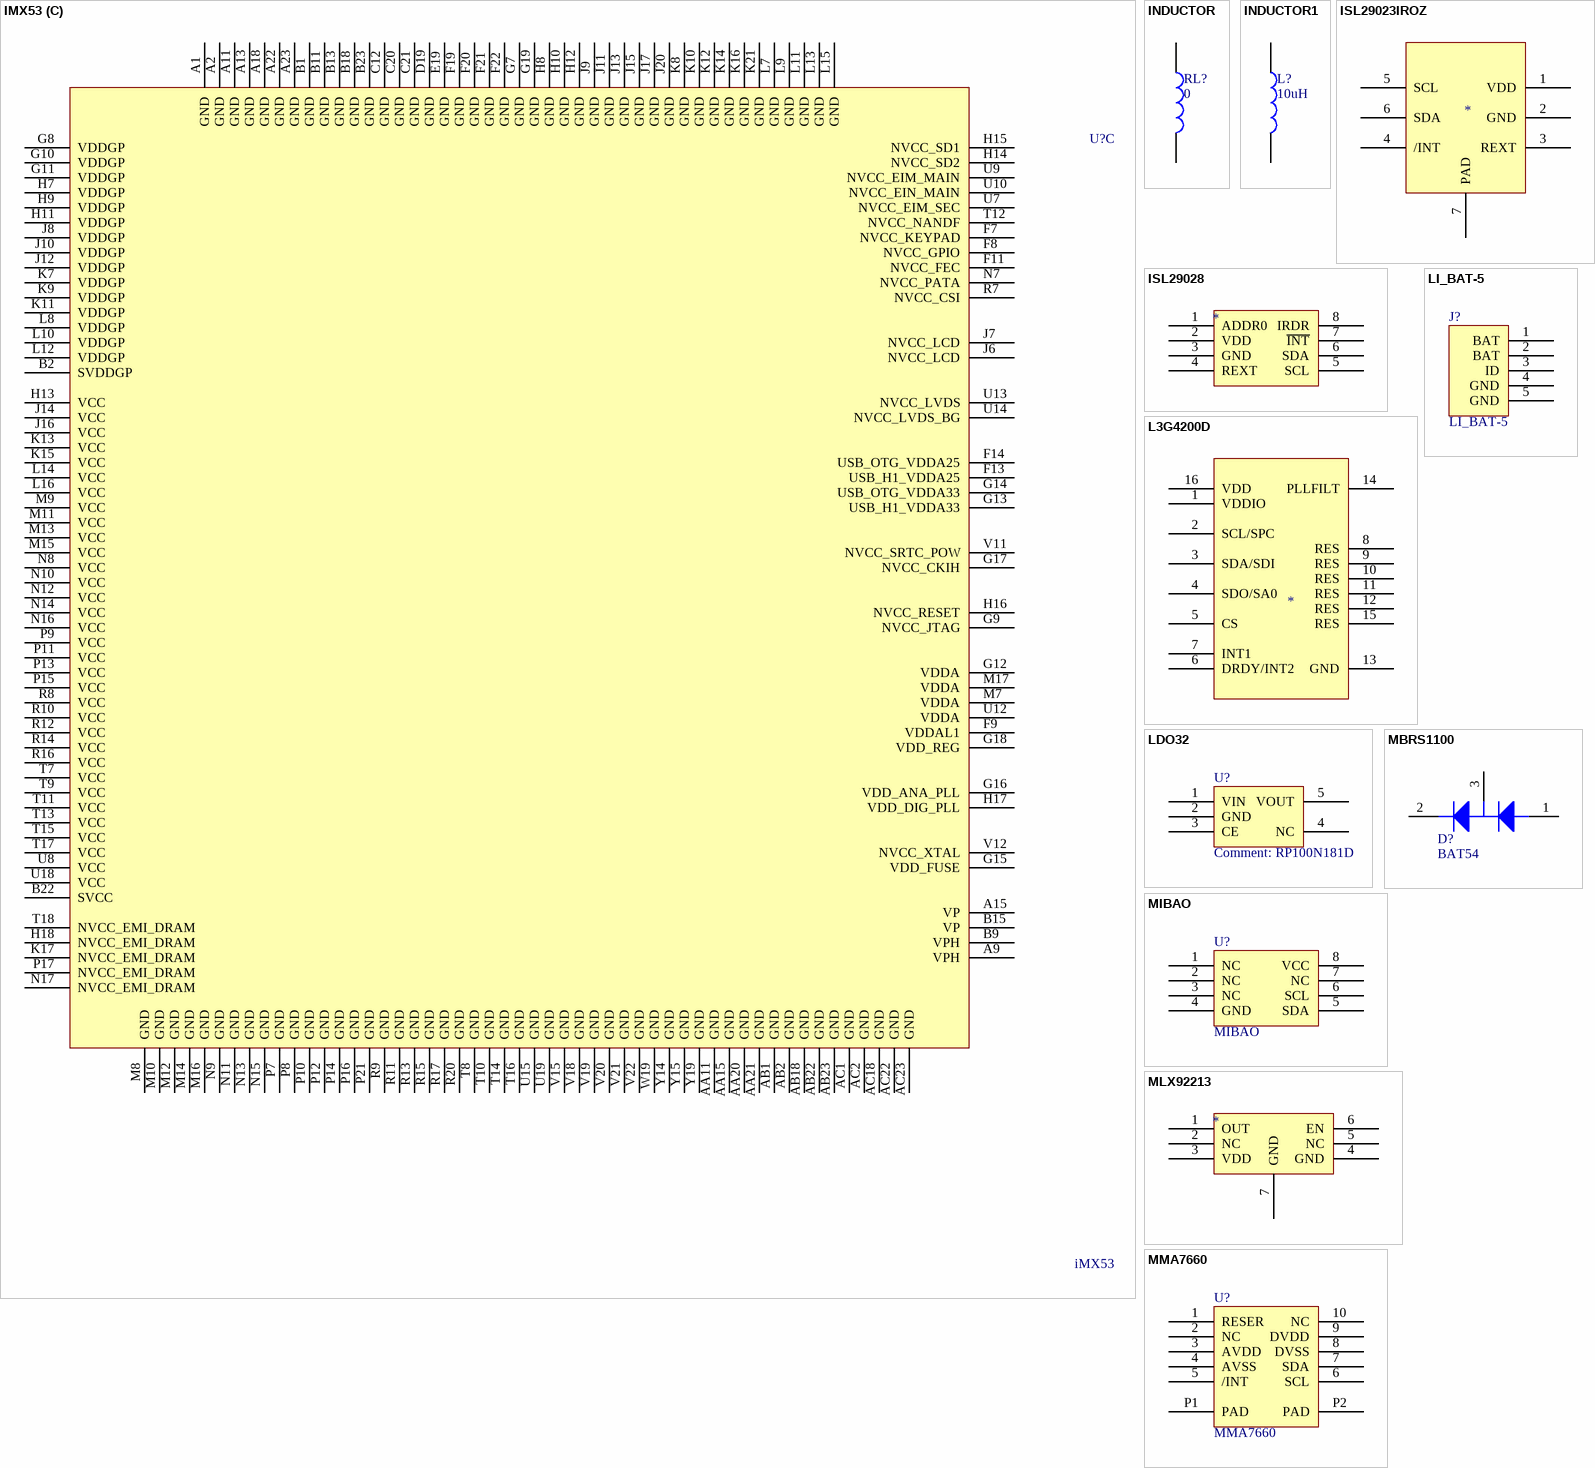
[diagram p7: symbols IMX53 to MMA7660]

## IMX53
designator U?, comment iMX53
footprint U-BGA-529-0_8 (Model Description)
part A pins: A7 JTAG_TDO, A8 JTAG_TMS, A10 SATA_TXP, A12 SATA_RXM, A14 SATA_REFCLKM, A21 RESET_IN_B, AA3 EIM_A22, AA4 EIM_A21, AA5 EIM_A16, AA7 EIM_DA2, AA8 EIM_DA8, AA9 EIM_DA15, AA10 NANDF_CLE, AA12 LVDS1_TX3_N, AA13 LVDS1_CLK_N, AA19 TVDAC_COMP, AA22 DRAM_D30, AA23 DRAM_D28, AB3 EIM_A18, AB6 EIM_DA4, AB7 EIM_DA10, AB8 NANDF_WE_B, AB10 CKIL, AB11 EXTAL, AB12 LVDS1_TX2_P, AB13 LVDS1_TX1_P, AB14 LVDS1_TX0_P, AB19 TVCDC_IOB_BACK, AB20 TVDAC_IOG, AB21 TVCDC_IOR_BACK, AC4 EIM_DA1, AC5 EIM_DA7, AC6 EIM_DA11, AC7 EIM_DA13, AC8 NANDF_RE_B, AC9 NANDF_WP_B, AC10 ECKIL, AC11 XTAL, AC12 LVDS1_TX2_N, AC13 LVDS1_TX1_N, AC14 LVDS1_TX0_N, AC19 TVDAC_IOB, AC20 TVCDC_IOG_BACK, AC21 TVDAC_IOR, B8 JTAG_TDI, B10 SATA_TXM, B12 STAT_RXP, B14 SATA_REFCLKP, B20 BOOT_MODE1, B21 CKIH1, C9 JTAG_MOD, C13 SATA_REXT, C18 BOOT_MODE0, C19 POR_B, C22 DRAM_D15, C23 DRAM_D13, D9 JTAG_TCK, D17 TEST_MODE, D18 CKIH2, D20 DRAM_D11, D21 DRAM_D9, D22 DRAM_SDQS1_B, D23 DRAM_SDQS1, E9 JTAG_TRSTB, E20 DRAM_DQM1, E21 DRAM_D8, E22 DRAM_D10, E23 DRAM_D12, F23 DRAM_D14, G20 DRAM_D3, G21 DRAM_D1, G22 DRAM_D7, G23 DRAM_D5, H19 DRAM_SDCKE0, H20 DRAM_D0, H21 DRAM_DQM0, H22 DRAM_SDQS0_B, H23 DRAM_SDQS0, J18 DRAM_SDODT0, J19 DRAM_RAS, J21 DRAM_D2, J22 DRAM_D6, J23 DRAM_D4, K18 DRAM_CS0, K19 DRAM_A10, K20 DRAM_A4, K22 DRAM_SDCLK_0_B, K23 DRAM_SDCLK_0, L1 PATA_DATA0, L6 PATA_DATA2, L17 DDR_VREF, L18 DRAM_CAS, L19 DRAM_SDWE, L20 DRAM_A12, L21 DRAM_A1, L22 DRAM_A11, L23 DRAM_A13, M1 PATA_DATA1, M2 PATA_DATA3, M3 PATA_DATA4, M4 PATA_DATA5, M5 PATA_DATA7, M18 DRAM_A15, M19 DRAM_A0, M20 DRAM_A2, M21 DRAM_A9, M22 DRAM_A6, M23 DRAM_CALIBRATION, N1 PATA_DATA6, N18 DRAM_A14, N19 DRAM_SDBA2, N20 DRAM_A3, N21 DRAM_A5, N22 DRAM_A7, N23 DRAM_A8, P18 DRAM_RESET, P19 DRAM_CS1, P20 DRAM_SDBA1, P22 DRAM_SDCLK_1, P23 DRAM_SDCLK_1_B, R18 DRAM_SDODT1, R19 DRAM_SDBA0, R21 DRAM_D19, R22 DRAM_D21, R23 DRAM_D23, T19 DRAM_SDCKE1, T20 DRAM_DQM2, T21 DRAM_D17, T22 DRAM_SDQS2, T23 DRAM_SDQS2_B, U11 NANDF_RB0, U16 TVDAC_DHVDD, U17 TVDAC_AHVDDRGB, U20 DRAM_D16, U21 DRAM_D18, U22 DRAM_D22, U23 DRAM_D20, V6 EIM_A23, V7 EIM_A17, V9 EIM_DA5, V10 EIM_DA12, V13 NANDF_CS1, V14 NANDF_CS2, V16 TVDAC_AHVDDRGB, V23 DRAM_D29, W6 EIM_A25, W7 EIM_A19, W9 EIM_DA3, W10 EIM_DA9, W12 NANDF_CS0, W13 NANDF_CS3, W14 PMIC_ON_REQ, W15 PMIC_STBY_REQ, W20 DRAM_DQM3, W21 DRAM_D25, W22 DRAM_D27, W23 DRAM_D31, Y5 EIM_A24, Y6 EIM_A20, Y8 EIM_DA0, Y9 EIM_DA6, Y10 EIM_DA14, Y11 NANDF_ALE, Y12 LVDS1_TX3_P, Y13 LVDS1_CLK_P, Y18 TVDAC_VREF, Y20 DRAM_D24, Y21 DRAM_D26, Y22 DRAM_SDQS3, Y23 DRAM_SDQS3_B
part B pins: A3 GPIO_17, A4 GPIO_7, A5 GPIO_5, A6 GPIO_3, A16 USB_H1_GPANAIO, A17 USB_H1_DP, A19 USB_OTG_DN, A20 SD1_DATA0, AA1 EIM_D28, AA2 EIM_D29, AA6 EIM_LBA, AA14 LVDS_BG_RES, AA16 LVDS0_TX2_P, AA17 LVDS0_TX0_P, AA18 GPIO_13, AB4 EIM_RW, AB5 EIM_EB1, AB9 EIM_WAIT, AB15 LVDS0_TX3_N, AB16 LVDS0_CLK_N, AB17 LVDS0_TX1_N, AC3 EIM_EB0, AC15 LVDS0_TX3_P, AC16 LVDS0_CLK_P, AC17 LVDS0_TX1_P, B3 KEY_ROW0, B4 GPIO_19, B5 GPIO_8, B6 GPIO_6, B7 GPIO_1, B16 USB_H1_RREFEXT, B17 USB_H1_DN, B19 USB_OTG_DP, C1 DISP0_DAT21, C2 DI0_PIN3, C3 DISP0_DAT23, C4 KEY_COL2, C5 KEY_COL0, C6 GPIO_16, C7 GPIO_2, C8 GPIO_0, C10 FEC_TX_EN, C11 FEC_RXD0, C14 SD2_DATA1, C15 SD2_CMD, C16 USB_OTG_ID, C17 SD1_DATA1, D1 DISP0_DAT16, D2 DI0_PIN4, D3 DI0_PIN2, D4 KEY_ROW3, D5 KEY_ROW2, D6 KEY_ROW1, D7 GPIO_18, D8 GPIO_4, D10 FEC_TXD1, D11 FEC_CRS_DV, D12 FEC_MDIO, D13 SD2_DATA0, D14 SD2_DATA2, D15 USB_H1_VBUS, D16 USB_OTG_RREFEXT, E1 DISP0_DAT13, E2 DISP0_DAT9, E3 DISP0_DAT22, E4 DI0_PIN15, E5 KEY_COL4, E6 KEY_ROW4, E7 KEY_COL1, E8 GPIO_9, E10 FEC_MDC, E11 FEC_RXD1, E12 FEC_REF_CLK, E13 SD2_DATA3, E14 SD2_CLK, E15 USB_OTG_VBUS, E16 SD1_CLK, E17 FASTR_DIG, E18 FASTR_ANA, F1 DISP0_DAT3, F2 DISP0_DAT14, F3 DISP0_DAT15, F4 DISP0_DAT20, F5 DISP0_DAT17, F6 KEY_COL3, F10 FEC_TXD0, F12 FEC_RX_ER, F15 USB_OTG_GPANAIO, F16 SD1_DATA3, F17 SD1_DATA2, F18 SD1_CMD, G1 DISP0_DAT6, G2 DISP0_DAT4, G3 DISP0_DAT10, G4 DISP0_DAT18, G5 DISP0_DAT19, G6 DISP0_DAT8, H1 DISP0_DAT12, H2 DISP0_DAT2, H3 DISP0_DAT5, H4 DI0_DISP_CLK, H5 DISP0_DAT11, H6 DISP0_DAT7, J1 PATA_DMARQ, J2 PATA_DMACK, J3 PATA_DIOW, J4 DISP0_DAT1, J5 DISP0_DAT0, K1 PATA_IORDY, K2 PATA_RESET_B, K3 PATA_DIOR, K4 PATA_BUFFER_EN, K5 PATA_INTRQ, K6 PATA_DA_0, L2 PATA_CS_1, L3 PATA_DA_1, L4 PATA_DA_2, L5 PATA_CS_0, M6 PATA_DATA11, N2 PATA_DATA8, N3 PATA_DATA9, N4 PATA_DATA10, N5 PATA_DATA12, N6 PATA_DATA13, P1 CSIO_PIXCLK, P2 CSIO_MCLK, P3 CSIO_DATA_EN, P4 CSIO_VSYNC, P5 PATA_DATA15, P6 PATA_DATA14, R1 CSIO_DAT4, R2 CSIO_DAT5, R3 CSIO_DAT7, R4 CSIO_DAT9, R5 CSIO_DAT10, R6 CSIO_DAT6, T1 CSIO_DAT8, T2 CSIO_DAT11, T3 CSIO_DAT12, T4 CSIO_DAT16, T5 CSIO_DAT17, T6 CSIO_DAT13, U1 CSIO_DAT14, U2 CSIO_DAT15, U3 CSIO_DAT18, U4 CSIO_DAT19, U5 EIM_D17, U6 EIM_D16, V1 EIM_D18, V2 EIM_D19, V3 EIM_D21, V4 EIM_D27, V5 EIM_D26, V8 EIM_OE, V17 GPIO_11, W1 EIM_D20, W2 EIM_D22, W3 EIM_D25, W4 EIM_D30, W5 EIM_D31, W8 EIM_CS0, W11 EIM_BCLK, W16 GPIO_10, W17 GPIO_12, W18 GPIO_14, Y1 EIM_D23, Y2 EIM_D24, Y3 EIM_EB2, Y4 EIM_EB3, Y7 EIM_CS1, Y16 LVDS0_TX2_N, Y17 LVDS0_TX0_N
part C pins: A1 GND, A2 GND, A9 VPH, A11 GND, A13 GND, A15 VP, A18 GND, A22 GND, A23 GND, AA11 GND, AA15 GND, AA20 GND, AA21 GND, AB1 GND, AB2 GND, AB18 GND, AB22 GND, AB23 GND, AC1 GND, AC2 GND, AC18 GND, AC22 GND, AC23 GND, B1 GND, B2 SVDDGP, B9 VPH, B11 GND, B13 GND, B15 VP, B18 GND, B22 SVCC, B23 GND, C12 GND, C20 GND, C21 GND, D19 GND, E19 GND, F7 NVCC_KEYPAD, F8 NVCC_GPIO, F9 VDDAL1, F11 NVCC_FEC, F13 USB_H1_VDDA25, F14 USB_OTG_VDDA25, F19 GND, F20 GND, F21 GND, F22 GND, G7 GND, G8 VDDGP, G9 NVCC_JTAG, G10 VDDGP, G11 VDDGP, G12 VDDA, G13 USB_H1_VDDA33, G14 USB_OTG_VDDA33, G15 VDD_FUSE, G16 VDD_ANA_PLL, G17 NVCC_CKIH, G18 VDD_REG, G19 GND, H7 VDDGP, H8 GND, H9 VDDGP, H10 GND, H11 VDDGP, H12 GND, H13 VCC, H14 NVCC_SD2, H15 NVCC_SD1, H16 NVCC_RESET, H17 VDD_DIG_PLL, H18 NVCC_EMI_DRAM, J6 NVCC_LCD, J7 NVCC_LCD, J8 VDDGP, J9 GND, J10 VDDGP, J11 GND, J12 VDDGP, J13 GND, J14 VCC, J15 GND, J16 VCC, J17 GND, J20 GND, K7 VDDGP, K8 GND, K9 VDDGP, K10 GND, K11 VDDGP, K12 GND, K13 VCC, K14 GND, K15 VCC, K16 GND, K17 NVCC_EMI_DRAM, K21 GND, L7 GND, L8 VDDGP, L9 GND, L10 VDDGP, L11 GND, L12 VDDGP, L13 GND, L14 VCC, L15 GND, L16 VCC, M7 VDDA, M8 GND, M9 VCC, M10 GND, M11 VCC, M12 GND, M13 VCC, M14 GND, M15 VCC, M16 GND, M17 VDDA, N7 NVCC_PATA, N8 VCC, N9 GND, N10 VCC, N11 GND, N12 VCC, N13 GND, N14 VCC, N15 GND, N16 VCC, N17 NVCC_EMI_DRAM, P7 GND, P8 GND, P9 VCC, P10 GND, P11 VCC, P12 GND, P13 VCC, P14 GND, P15 VCC, P16 GND, P17 NVCC_EMI_DRAM, P21 GND, R7 NVCC_CSI, R8 VCC, R9 GND, R10 VCC, R11 GND, R12 VCC, R13 GND, R14 VCC, R15 GND, R16 VCC, R17 GND, R20 GND, T7 VCC, T8 GND, T9 VCC, T10 GND, T11 VCC, T12 NVCC_NANDF, T13 VCC, T14 GND, T15 VCC, T16 GND, T17 VCC, T18 NVCC_EMI_DRAM, U7 NVCC_EIM_SEC, U8 VCC, U9 NVCC_EIM_MAIN, U10 NVCC_EIN_MAIN, U12 VDDA, U13 NVCC_LVDS, U14 NVCC_LVDS_BG, U15 GND, U18 VCC, U19 GND, V11 NVCC_SRTC_POW, V12 NVCC_XTAL, V15 GND, V18 GND, V19 GND, V20 GND, V21 GND, V22 GND, W19 GND, Y14 GND, Y15 GND, Y19 GND

## INDUCTOR
designator RL?, comment 0
footprint L0603 (0603)
footprint L0603 (0603)
pins: 1, 2

## INDUCTOR1
designator L?, comment 10uH
footprint COIL8
footprint l-2-2_7-2812c (WE-TPC)
pins: 1, 2

## ISL29023IROZ
designator *
pins: 1 VDD, 2 GND, 3 REXT, 4 /INT, 5 SCL, 6 SDA, 7 PAD

## ISL29028
designator *
pins: 1 ADDR0, 2 VDD, 3 GND, 4 REXT, 5 SCL, 6 SDA, 7 ~{INT}, 8 IRDR

## L3G4200D
designator *
pins: 1 VDDIO, 2 SCL/SPC, 3 SDA/SDI, 4 SDO/SA0, 5 CS, 6 DRDY/INT2, 7 INT1, 8 RES, 9 RES, 10 RES, 11 RES, 12 RES, 13 GND, 14 PLLFILT, 15 RES, 16 VDD

## LDO32
designator U?, comment RP100N181D
LDO3.2V
footprint SOT23-5-0_95 (SOT23-5)
pins: 1 VIN, 2 GND, 3 CE, 4 NC, 5 VOUT

## LI_BAT-5
designator J?
footprint J-BAT-5-1_25 (A1255)
pins: 1 BAT, 2 BAT, 3 ID, 4 GND, 5 GND, 6 GND hidden to GND, 7 GND hidden to GND

## MBRS1100
designator D?, comment BAT54
footprint SOT-23
pins: 1, 2, 3

## MIBAO
designator U?
footprint U-SO-8-1_27 (SO-8)
pins: 1 NC, 2 NC, 3 NC, 4 GND, 5 SDA, 6 SCL, 7 NC, 8 VCC

## MLX92213
designator *
pins: 1 OUT, 2 NC, 3 VDD, 4 GND, 5 NC, 6 EN, 7 GND

## MMA7660
designator U?
footprint U-DFN-10-0_5 (DFN-10)
pins: 1 RESER, 2 NC, 3 AVDD, 4 AVSS, 5 /INT, 6 SCL, 7 SDA, 8 DVSS, 9 DVDD, 10 NC, P1 PAD, P2 PAD

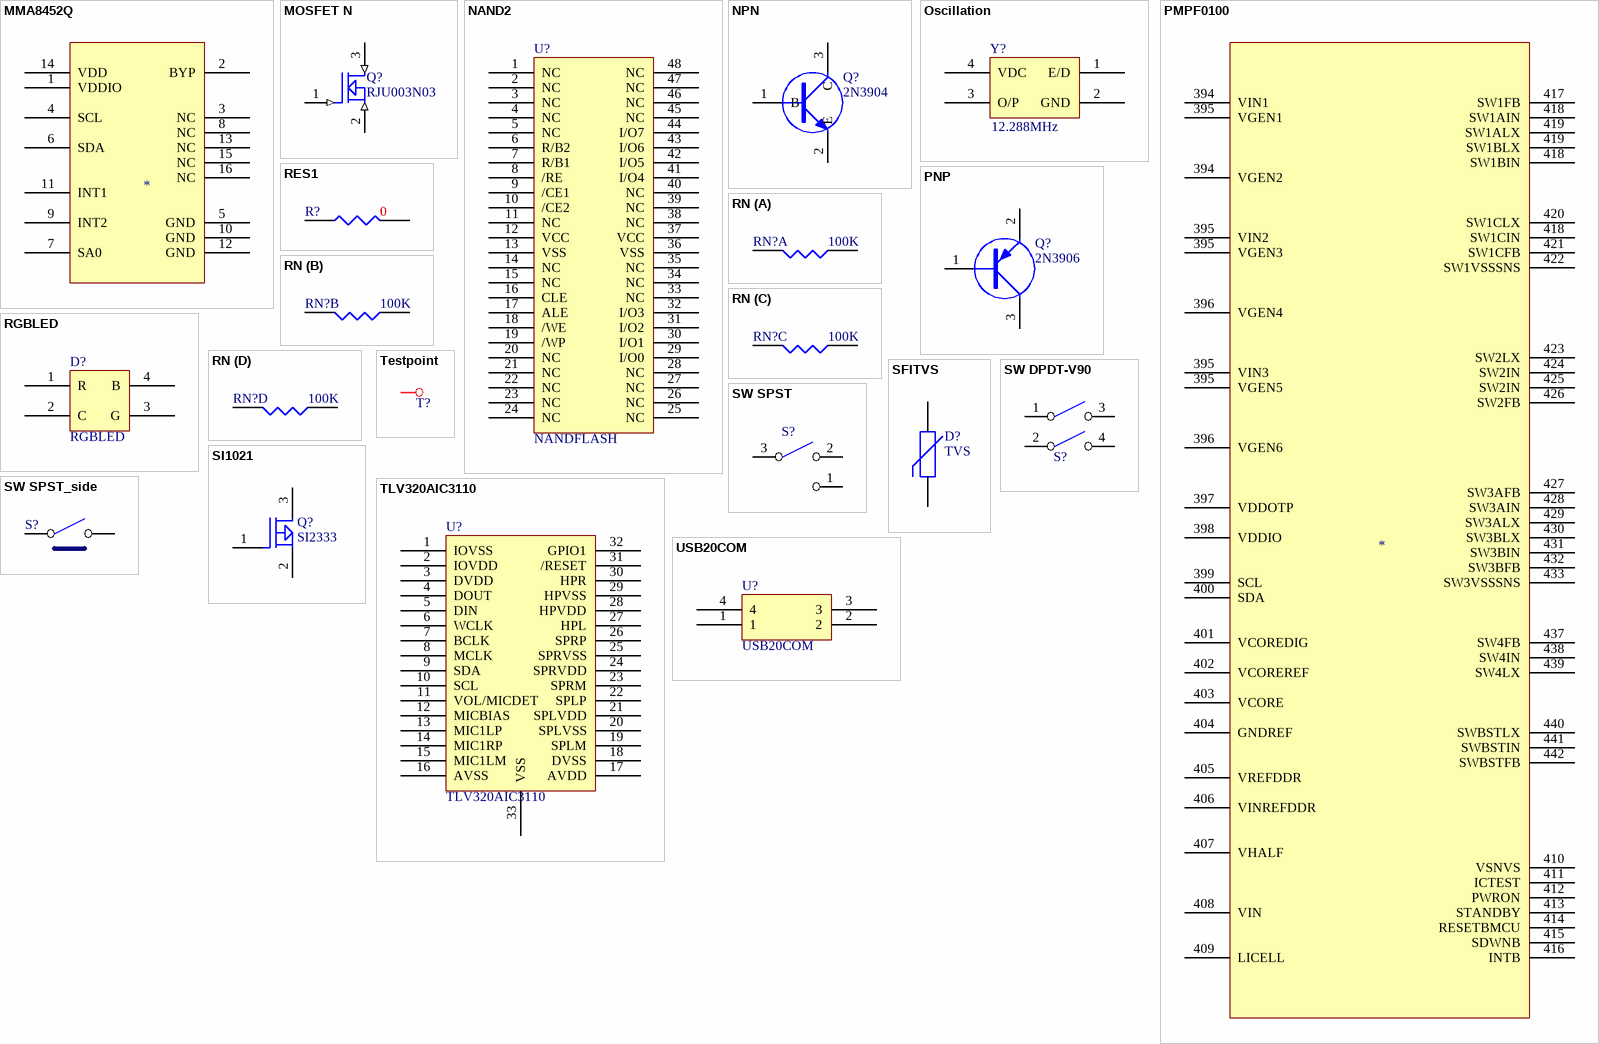
[diagram p8: symbols MMA8452Q to USB20COM]

## MMA8452Q
designator *
pins: 1 VDDIO, 2 BYP, 3 NC, 4 SCL, 5 GND, 6 SDA, 7 SA0, 8 NC, 9 INT2, 10 GND, 11 INT1, 12 GND, 13 NC, 14 VDD, 15 NC, 16 NC

## MOSFET N
designator Q?, comment RJU003N03
footprint SOT-23-NPN (SOT-23)
pins: 1 G (in), 2 S (in), 3 D (in)

## NAND2
designator U?, comment NANDFLASH
footprint U-TSOP-48-0_5 (TSOP-48)
pins: 1 NC, 2 NC, 3 NC, 4 NC, 5 NC, 6 R/B2, 7 R/B1, 8 /RE, 9 /CE1, 10 /CE2, 11 NC, 12 VCC, 13 VSS, 14 NC, 15 NC, 16 CLE, 17 ALE, 18 /WE, 19 /WP, 20 NC, 21 NC, 22 NC, 23 NC, 24 NC, 25 NC, 26 NC, 27 NC, 28 NC, 29 I/O0, 30 I/O1, 31 I/O2, 32 I/O3, 33 NC, 34 NC, 35 NC, 36 VSS, 37 VCC, 38 NC, 39 NC, 40 NC, 41 I/O4, 42 I/O5, 43 I/O6, 44 I/O7, 45 NC, 46 NC, 47 NC, 48 NC

## NPN
designator Q?, comment 2N3904
NPN Transistor
footprint SOT-23-NPN
pins: 1 B, 2 E, 3 C

## Oscillation
designator Y?, comment 12.288MHz
footprint Y-4-1_9-1CI2 (Footprint not found)
pins: 1 E/D, 2 GND, 3 O/P, 4 VDC

## PMPF0100
designator *
pins: 394 VIN1, 394 VGEN2, 395 VGEN1, 395 VIN2, 395 VGEN3, 395 VIN3, 395 VGEN5, 396 VGEN4, 396 VGEN6, 397 VDDOTP, 398 VDDIO, 399 SCL, 400 SDA, 401 VCOREDIG, 402 VCOREREF, 403 VCORE, 404 GNDREF, 405 VREFDDR, 406 VINREFDDR, 407 VHALF, 408 VIN, 409 LICELL, 410 VSNVS, 411 ICTEST, 412 PWRON, 413 STANDBY, 414 RESETBMCU, 415 SDWNB, 416 INTB, 417 SW1FB, 418 SW1AIN, 418 SW1BIN, 418 SW1CIN, 419 SW1ALX, 419 SW1BLX, 420 SW1CLX, 421 SW1CFB, 422 SW1VSSSNS, 423 SW2LX, 424 SW2IN, 425 SW2IN, 426 SW2FB, 427 SW3AFB, 428 SW3AIN, 429 SW3ALX, 430 SW3BLX, 431 SW3BIN, 432 SW3BFB, 433 SW3VSSSNS, 437 SW4FB, 438 SW4IN, 439 SW4LX, 440 SWBSTLX, 441 SWBSTIN, 442 SWBSTFB

## PNP
designator Q?, comment 2N3906
PNP Transistor
footprint SOT-23-PNP
pins: 1 B, 2 E, 3 C

## RES1
designator R?, comment 0
footprint 0603
footprint 0402A
footprint R0402 (0402B)
pins: 1, 2

## RGBLED
designator D?
footprint D-LED-4-1_47 (RGBLED)
pins: 1 R, 2 C, 3 G, 4 B

## RN
designator RN?, comment 100K
footprint MNR14
footprint RRA1005
footprint RRA1005
part A pins: 1, 8
part B pins: 2, 7
part C pins: 3, 6
part D pins: 4, 5

## SFITVS
designator D?, comment TVS
ESD protect
footprint D06342 (06342)
pins: 1, 2

## SI1021
designator Q?, comment SI2333
footprint SOT-23
pins: 1 G, 2 S, 3 D

## SW DPDT-V90
designator S?  (value not drawn)
footprint J-SW-4-TMG-53 (Footprint not found)
pins: 1 COMMON, 2 COMMON, 3 NO, 4 NO, 5 GND hidden to GND, 6 GND hidden to GND

## SW SPST
designator S?
footprint J-SW-3-MSS-V (Footprint not found)
pins: 1 NO, 2 COMMON, 3 NO, 4 GND hidden to GND, 5 GND hidden to GND, 6 GND hidden to GND, 7 GND hidden to GND

## SW SPST_side
designator S?  (value not drawn)
footprint J-SW-2-3_4S1 (PTS-161)
pins: 1 COMMON, 2 NO, 3 GND (power) hidden to GND, 4 GND (power) hidden to GND, 5 GND (power) hidden to GND, 6 GND (power) hidden to GND

## Testpoint
designator T?  (value not drawn)
footprint TP2_0 (testpiont)
pins: 1 TP

## TLV320AIC3110
designator U?
footprint U-QFN-32-0_5
pins: 1 IOVSS, 2 IOVDD, 3 DVDD, 4 DOUT, 5 DIN, 6 WCLK, 7 BCLK, 8 MCLK, 9 SDA, 10 SCL, 11 VOL/MICDET, 12 MICBIAS, 13 MIC1LP, 14 MIC1RP, 15 MIC1LM, 16 AVSS, 17 AVDD, 18 DVSS, 19 SPLM, 20 SPLVSS, 21 SPLVDD, 22 SPLP, 23 SPRM, 24 SPRVDD, 25 SPRVSS, 26 SPRP, 27 HPL, 28 HPVDD, 29 HPVSS, 30 HPR, 31 /RESET, 32 GPIO1, 33 GND hidden to GND, 33 VSS

## USB20COM
designator U?
footprint F-CHOKE-4-0805 (COM0805)
pins: 1, 2, 3, 4

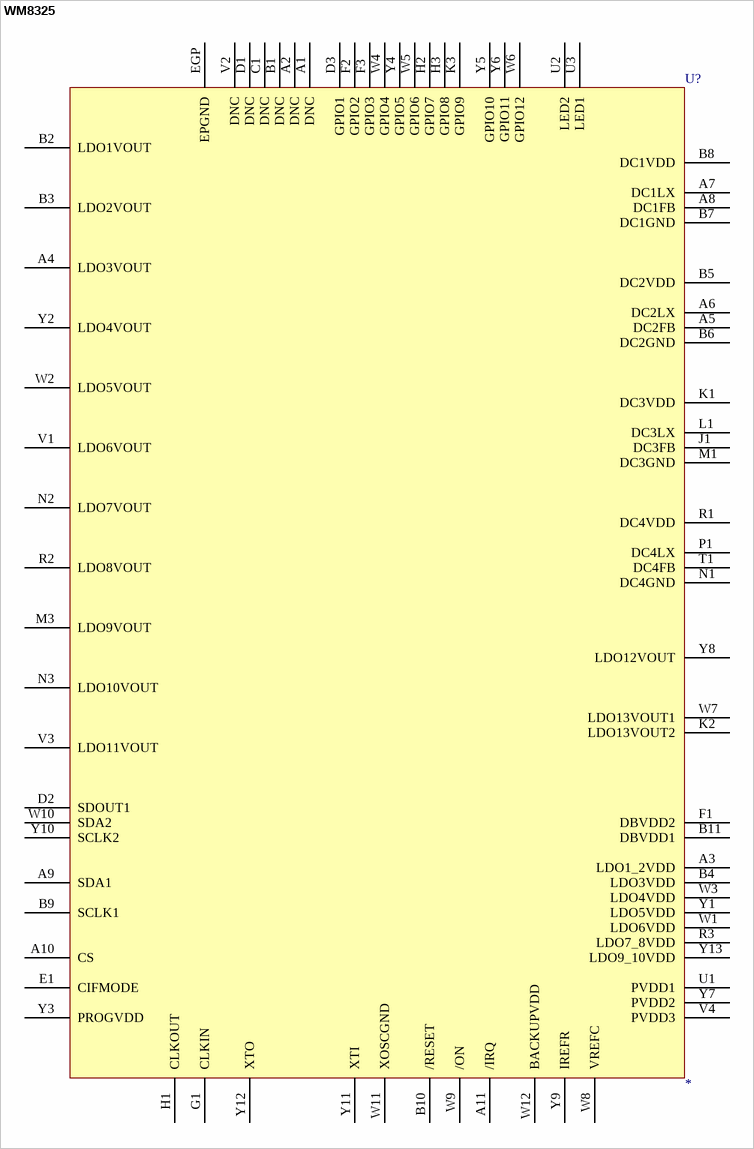
[diagram p9: symbol WM8325]

## WM8325
designator U?
pins: A1 DNC, A2 DNC, A3 LDO1_2VDD, A4 LDO3VOUT, A5 DC2FB, A6 DC2LX, A7 DC1LX, A8 DC1FB, A9 SDA1, A10 CS, A11 /IRQ, B1 DNC, B2 LDO1VOUT, B3 LDO2VOUT, B4 LDO3VDD, B5 DC2VDD, B6 DC2GND, B7 DC1GND, B8 DC1VDD, B9 SCLK1, B10 /RESET, B11 DBVDD1, C1 DNC, D1 DNC, D2 SDOUT1, D3 GPIO1, E1 CIFMODE, EGP EPGND, F1 DBVDD2, F2 GPIO2, F3 GPIO3, G1 CLKIN, H1 CLKOUT, H2 GPIO7, H3 GPIO8, J1 DC3FB, K1 DC3VDD, K2 LDO13VOUT2, K3 GPIO9, L1 DC3LX, M1 DC3GND, M3 LDO9VOUT, N1 DC4GND, N2 LDO7VOUT, N3 LDO10VOUT, P1 DC4LX, R1 DC4VDD, R2 LDO8VOUT, R3 LDO7_8VDD, T1 DC4FB, U1 PVDD1, U2 LED2, U3 LED1, V1 LDO6VOUT, V2 DNC, V3 LDO11VOUT, V4 PVDD3, W1 LDO6VDD, W2 LDO5VOUT, W3 LDO4VDD, W4 GPIO4, W5 GPIO6, W6 GPIO12, W7 LDO13VOUT1, W8 VREFC, W9 /ON, W10 SDA2, W11 XOSCGND, W12 BACKUPVDD, Y1 LDO5VDD, Y2 LDO4VOUT, Y3 PROGVDD, Y4 GPIO5, Y5 GPIO10, Y6 GPIO11, Y7 PVDD2, Y8 LDO12VOUT, Y9 IREFR, Y10 SCLK2, Y11 XTI, Y12 XTO, Y13 LDO9_10VDD